# Altium integrated library Motorola Microcontroller 8-Bit.IntLib: 909 symbols (part 9 of 31)
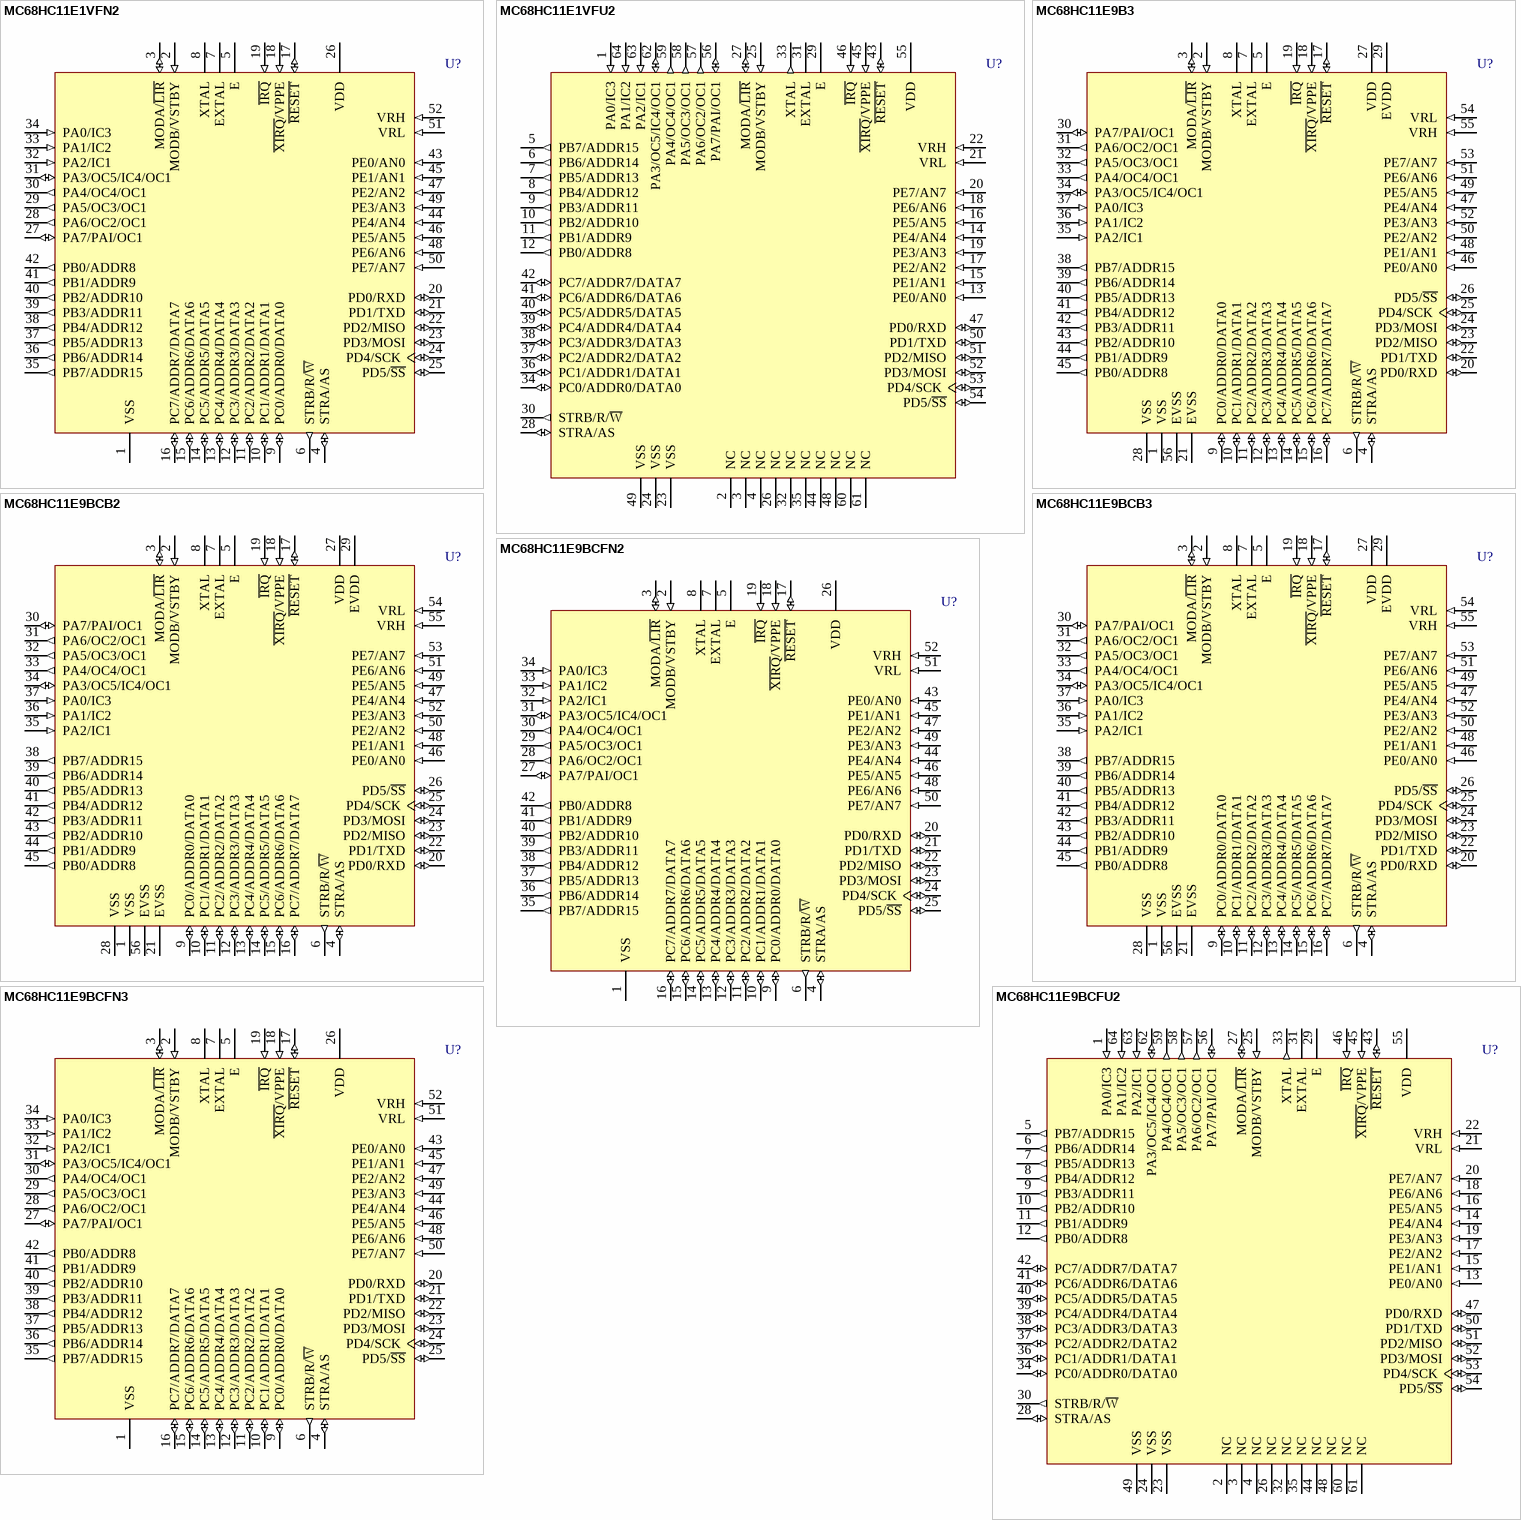
[diagram p121: symbols MC68HC11E1VFN2 to MC68HC11E9BCFU2]

## MC68HC11E1VFN2
designator U?
8-Bit Microcontroller; Published: 17-Jan-2003; LatestRevisionDate: 13-Apr-2006; LatestRevisionNote: IPC-7351 Footprint Added.; DatasheetVersion: 25-Jul-2002; PackageVersion: rev3, 1997; PackageReference: 778-02; Publisher: Altium Limited; PackageDescription: 52-Pin Plastic Leaded Chip Carrier 1.27 mm Pitch; ComponentLink1Description: Manufacturer Link; ComponentLink1URL: http://www.freescale.com/; ComponentLink2Description: Datasheet; ComponentLink2URL: http://www.freescale.com/files/microcontrollers/doc/data_sheet/M68HC11E.pdf
footprint 778-02_N (Leaded Chip Carrier, 52-Leads, Body 19x19mm, Pitch 1.27mm, IPC Medium Density)
footprint 778-02_L (Leaded Chip Carrier, 52-Leads, Body 19x19mm, Pitch 1.27mm, IPC High Density)
footprint 778-02_M (Leaded Chip Carrier, 52-Leads, Body 19x19mm, Pitch 1.27mm, IPC Low Density)
3D model MC68HC11-778-02 (52-Pin Plastic Leaded Chip Carrier 1.27 mm Pitch)
pins: 1 VSS (power), 2 MODB/VSTBY (in), 3 MODA/~{LIR} (io), 4 STRA/AS (io), 5 E, 6 STRB/R/~{W} (out), 7 EXTAL, 8 XTAL, 9 PC0/ADDR0/DATA0 (io), 10 PC1/ADDR1/DATA1 (io), 11 PC2/ADDR2/DATA2 (io), 12 PC3/ADDR3/DATA3 (io), 13 PC4/ADDR4/DATA4 (io), 14 PC5/ADDR5/DATA5 (io), 15 PC6/ADDR6/DATA6 (io), 16 PC7/ADDR7/DATA7 (io), 17 ~{RESET} (io), 18 ~{XIRQ}/VPPE (in), 19 ~{IRQ} (in), 20 PD0/RXD (io), 21 PD1/TXD (io), 22 PD2/MISO (io), 23 PD3/MOSI (io), 24 PD4/SCK (io), 25 PD5/~{SS} (io), 26 VDD (power), 27 PA7/PAI/OC1 (io), 28 PA6/OC2/OC1 (out), 29 PA5/OC3/OC1 (out), 30 PA4/OC4/OC1 (out), 31 PA3/OC5/IC4/OC1 (io), 32 PA2/IC1 (in), 33 PA1/IC2 (in), 34 PA0/IC3 (in), 35 PB7/ADDR15 (out), 36 PB6/ADDR14 (out), 37 PB5/ADDR13 (out), 38 PB4/ADDR12 (out), 39 PB3/ADDR11 (out), 40 PB2/ADDR10 (out), 41 PB1/ADDR9 (out), 42 PB0/ADDR8 (out), 43 PE0/AN0 (in), 44 PE4/AN4 (in), 45 PE1/AN1 (in), 46 PE5/AN5 (in), 47 PE2/AN2 (in), 48 PE6/AN6 (in), 49 PE3/AN3 (in), 50 PE7/AN7 (in), 51 VRL (in), 52 VRH (in)

## MC68HC11E1VFU2
designator U?
8-Bit Microcontroller; Published: 17-Jan-2003; LatestRevisionDate: 13-Apr-2006; LatestRevisionNote: IPC-7351 Footprint Added.; DatasheetVersion: 25-Jul-2002; PackageVersion: rev4, Jul-2002; PackageReference: 840C; Publisher: Altium Limited; PackageDescription: 64-Pin Quad Flat Pack 0.8 mm Pitch; ComponentLink1Description: Manufacturer Link; ComponentLink1URL: http://www.freescale.com/; ComponentLink2Description: Datasheet; ComponentLink2URL: http://www.freescale.com/files/microcontrollers/doc/data_sheet/M68HC11E.pdf
footprint 840C_N (QFP, 64-Leads, Body 14x14mm, Pitch 0.8mm, IPC Medium Density)
footprint 840C_L (QFP, 64-Leads, Body 14x14mm, Pitch 0.8mm, IPC High Density)
footprint 840C_M (QFP, 64-Leads, Body 14x14mm, Pitch 0.8mm, IPC Low Density)
3D model MC68HC11-840C (64-Pin Quad Flat Pack 0.8 mm Pitch)
pins: 1 PA0/IC3 (in), 2 NC, 3 NC, 4 NC, 5 PB7/ADDR15 (out), 6 PB6/ADDR14 (out), 7 PB5/ADDR13 (out), 8 PB4/ADDR12 (out), 9 PB3/ADDR11 (out), 10 PB2/ADDR10 (out), 11 PB1/ADDR9 (out), 12 PB0/ADDR8 (out), 13 PE0/AN0 (in), 14 PE4/AN4 (in), 15 PE1/AN1 (in), 16 PE5/AN5 (in), 17 PE2/AN2 (in), 18 PE6/AN6 (in), 19 PE3/AN3 (in), 20 PE7/AN7 (in), 21 VRL (in), 22 VRH (in), 23 VSS (power), 24 VSS (power), 25 MODB/VSTBY (in), 26 NC, 27 MODA/~{LIR} (io), 28 STRA/AS (io), 29 E, 30 STRB/R/~{W} (out), 31 EXTAL, 32 NC, 33 XTAL (out), 34 PC0/ADDR0/DATA0 (io), 35 NC, 36 PC1/ADDR1/DATA1 (io), 37 PC2/ADDR2/DATA2 (io), 38 PC3/ADDR3/DATA3 (io), 39 PC4/ADDR4/DATA4 (io), 40 PC5/ADDR5/DATA5 (io), 41 PC6/ADDR6/DATA6 (io), 42 PC7/ADDR7/DATA7 (io), 43 ~{RESET} (io), 44 NC, 45 ~{XIRQ}/VPPE (in), 46 ~{IRQ} (in), 47 PD0/RXD (io), 48 NC, 49 VSS (power), 50 PD1/TXD (io), 51 PD2/MISO (io), 52 PD3/MOSI (io), 53 PD4/SCK (io), 54 PD5/~{SS} (io), 55 VDD (power), 56 PA7/PAI/OC1 (io), 57 PA6/OC2/OC1 (out), 58 PA5/OC3/OC1 (out), 59 PA4/OC4/OC1 (out), 60 NC, 61 NC, 62 PA3/OC5/IC4/OC1 (io), 63 PA2/IC1 (in), 64 PA1/IC2 (in)

## MC68HC11E9B3
designator U?
8-Bit Microcontroller; Published: 17-Jan-2003; LatestRevisionDate: 06-Jun-2005; LatestRevisionNote: Stylized 3D Model Added.; DatasheetVersion: 25-Jul-2002; PackageVersion: rev4, Jul-2002; PackageReference: 859; Publisher: Altium Limited; PackageDescription: DIP; 56 Leads; Row Spacing 15.24 mm; Pitch 1.778 mm; ComponentLink1Description: Manufacturer Link; ComponentLink1URL: http://www.freescale.com/; ComponentLink2Description: Datasheet; ComponentLink2URL: http://www.freescale.com/files/microcontrollers/doc/data_sheet/M68HC11E.pdf
footprint 859 (DIP; 56 Leads; Row Spacing 15.24 mm; Pitch 1.778 mm)
3D model 859-01 (DIP; 56 Leads; Row Spacing 15.24 mm; Pitch 1.778 mm)
pins: 1 VSS (power), 2 MODB/VSTBY (in), 3 MODA/~{LIR} (io), 4 STRA/AS (io), 5 E, 6 STRB/R/~{W} (out), 7 EXTAL, 8 XTAL, 9 PC0/ADDR0/DATA0 (io), 10 PC1/ADDR1/DATA1 (io), 11 PC2/ADDR2/DATA2 (io), 12 PC3/ADDR3/DATA3 (io), 13 PC4/ADDR4/DATA4 (io), 14 PC5/ADDR5/DATA5 (io), 15 PC6/ADDR6/DATA6 (io), 16 PC7/ADDR7/DATA7 (io), 17 ~{RESET} (io), 18 ~{XIRQ}/VPPE (in), 19 ~{IRQ} (in), 20 PD0/RXD (io), 21 EVSS (power), 22 PD1/TXD (io), 23 PD2/MISO (io), 24 PD3/MOSI (io), 25 PD4/SCK (io), 26 PD5/~{SS} (io), 27 VDD (power), 28 VSS (power), 29 EVDD (power), 30 PA7/PAI/OC1 (io), 31 PA6/OC2/OC1 (out), 32 PA5/OC3/OC1 (out), 33 PA4/OC4/OC1 (out), 34 PA3/OC5/IC4/OC1 (io), 35 PA2/IC1 (in), 36 PA1/IC2 (in), 37 PA0/IC3 (in), 38 PB7/ADDR15 (out), 39 PB6/ADDR14 (out), 40 PB5/ADDR13 (out), 41 PB4/ADDR12 (out), 42 PB3/ADDR11 (out), 43 PB2/ADDR10 (out), 44 PB1/ADDR9 (out), 45 PB0/ADDR8 (out), 46 PE0/AN0 (in), 47 PE4/AN4 (in), 48 PE1/AN1 (in), 49 PE5/AN5 (in), 50 PE2/AN2 (in), 51 PE6/AN6 (in), 52 PE3/AN3 (in), 53 PE7/AN7 (in), 54 VRL (in), 55 VRH (in), 56 EVSS (power)

## MC68HC11E9BCB2
designator U?
8-Bit Microcontroller; Published: 17-Jan-2003; LatestRevisionDate: 06-Jun-2005; LatestRevisionNote: Stylized 3D Model Added.; DatasheetVersion: 25-Jul-2002; PackageVersion: rev4, Jul-2002; PackageReference: 859; Publisher: Altium Limited; PackageDescription: DIP; 56 Leads; Row Spacing 15.24 mm; Pitch 1.778 mm; ComponentLink1Description: Manufacturer Link; ComponentLink1URL: http://www.freescale.com/; ComponentLink2Description: Datasheet; ComponentLink2URL: http://www.freescale.com/files/microcontrollers/doc/data_sheet/M68HC11E.pdf
footprint 859 (DIP; 56 Leads; Row Spacing 15.24 mm; Pitch 1.778 mm)
3D model 859-01 (DIP; 56 Leads; Row Spacing 15.24 mm; Pitch 1.778 mm)
pins: 1 VSS (power), 2 MODB/VSTBY (in), 3 MODA/~{LIR} (io), 4 STRA/AS (io), 5 E, 6 STRB/R/~{W} (out), 7 EXTAL, 8 XTAL, 9 PC0/ADDR0/DATA0 (io), 10 PC1/ADDR1/DATA1 (io), 11 PC2/ADDR2/DATA2 (io), 12 PC3/ADDR3/DATA3 (io), 13 PC4/ADDR4/DATA4 (io), 14 PC5/ADDR5/DATA5 (io), 15 PC6/ADDR6/DATA6 (io), 16 PC7/ADDR7/DATA7 (io), 17 ~{RESET} (io), 18 ~{XIRQ}/VPPE (in), 19 ~{IRQ} (in), 20 PD0/RXD (io), 21 EVSS (power), 22 PD1/TXD (io), 23 PD2/MISO (io), 24 PD3/MOSI (io), 25 PD4/SCK (io), 26 PD5/~{SS} (io), 27 VDD (power), 28 VSS (power), 29 EVDD (power), 30 PA7/PAI/OC1 (io), 31 PA6/OC2/OC1 (out), 32 PA5/OC3/OC1 (out), 33 PA4/OC4/OC1 (out), 34 PA3/OC5/IC4/OC1 (io), 35 PA2/IC1 (in), 36 PA1/IC2 (in), 37 PA0/IC3 (in), 38 PB7/ADDR15 (out), 39 PB6/ADDR14 (out), 40 PB5/ADDR13 (out), 41 PB4/ADDR12 (out), 42 PB3/ADDR11 (out), 43 PB2/ADDR10 (out), 44 PB1/ADDR9 (out), 45 PB0/ADDR8 (out), 46 PE0/AN0 (in), 47 PE4/AN4 (in), 48 PE1/AN1 (in), 49 PE5/AN5 (in), 50 PE2/AN2 (in), 51 PE6/AN6 (in), 52 PE3/AN3 (in), 53 PE7/AN7 (in), 54 VRL (in), 55 VRH (in), 56 EVSS (power)

## MC68HC11E9BCB3
designator U?
8-Bit Microcontroller; Published: 17-Jan-2003; LatestRevisionDate: 06-Jun-2005; LatestRevisionNote: Stylized 3D Model Added.; DatasheetVersion: 25-Jul-2002; PackageVersion: rev4, Jul-2002; PackageReference: 859; Publisher: Altium Limited; PackageDescription: DIP; 56 Leads; Row Spacing 15.24 mm; Pitch 1.778 mm; ComponentLink1Description: Manufacturer Link; ComponentLink1URL: http://www.freescale.com/; ComponentLink2Description: Datasheet; ComponentLink2URL: http://www.freescale.com/files/microcontrollers/doc/data_sheet/M68HC11E.pdf
footprint 859 (DIP; 56 Leads; Row Spacing 15.24 mm; Pitch 1.778 mm)
3D model 859-01 (DIP; 56 Leads; Row Spacing 15.24 mm; Pitch 1.778 mm)
pins: 1 VSS (power), 2 MODB/VSTBY (in), 3 MODA/~{LIR} (io), 4 STRA/AS (io), 5 E, 6 STRB/R/~{W} (out), 7 EXTAL, 8 XTAL, 9 PC0/ADDR0/DATA0 (io), 10 PC1/ADDR1/DATA1 (io), 11 PC2/ADDR2/DATA2 (io), 12 PC3/ADDR3/DATA3 (io), 13 PC4/ADDR4/DATA4 (io), 14 PC5/ADDR5/DATA5 (io), 15 PC6/ADDR6/DATA6 (io), 16 PC7/ADDR7/DATA7 (io), 17 ~{RESET} (io), 18 ~{XIRQ}/VPPE (in), 19 ~{IRQ} (in), 20 PD0/RXD (io), 21 EVSS (power), 22 PD1/TXD (io), 23 PD2/MISO (io), 24 PD3/MOSI (io), 25 PD4/SCK (io), 26 PD5/~{SS} (io), 27 VDD (power), 28 VSS (power), 29 EVDD (power), 30 PA7/PAI/OC1 (io), 31 PA6/OC2/OC1 (out), 32 PA5/OC3/OC1 (out), 33 PA4/OC4/OC1 (out), 34 PA3/OC5/IC4/OC1 (io), 35 PA2/IC1 (in), 36 PA1/IC2 (in), 37 PA0/IC3 (in), 38 PB7/ADDR15 (out), 39 PB6/ADDR14 (out), 40 PB5/ADDR13 (out), 41 PB4/ADDR12 (out), 42 PB3/ADDR11 (out), 43 PB2/ADDR10 (out), 44 PB1/ADDR9 (out), 45 PB0/ADDR8 (out), 46 PE0/AN0 (in), 47 PE4/AN4 (in), 48 PE1/AN1 (in), 49 PE5/AN5 (in), 50 PE2/AN2 (in), 51 PE6/AN6 (in), 52 PE3/AN3 (in), 53 PE7/AN7 (in), 54 VRL (in), 55 VRH (in), 56 EVSS (power)

## MC68HC11E9BCFN2
designator U?
8-Bit Microcontroller; Published: 17-Jan-2003; LatestRevisionDate: 13-Apr-2006; LatestRevisionNote: IPC-7351 Footprint Added.; DatasheetVersion: 25-Jul-2002; PackageVersion: rev3, 1997; PackageReference: 778-02; Publisher: Altium Limited; PackageDescription: 52-Pin Plastic Leaded Chip Carrier 1.27 mm Pitch; ComponentLink1Description: Manufacturer Link; ComponentLink1URL: http://www.freescale.com/; ComponentLink2Description: Datasheet; ComponentLink2URL: http://www.freescale.com/files/microcontrollers/doc/data_sheet/M68HC11E.pdf
footprint 778-02_N (Leaded Chip Carrier, 52-Leads, Body 19x19mm, Pitch 1.27mm, IPC Medium Density)
footprint 778-02_L (Leaded Chip Carrier, 52-Leads, Body 19x19mm, Pitch 1.27mm, IPC High Density)
footprint 778-02_M (Leaded Chip Carrier, 52-Leads, Body 19x19mm, Pitch 1.27mm, IPC Low Density)
3D model MC68HC11-778-02 (52-Pin Plastic Leaded Chip Carrier 1.27 mm Pitch)
pins: 1 VSS (power), 2 MODB/VSTBY (in), 3 MODA/~{LIR} (io), 4 STRA/AS (io), 5 E, 6 STRB/R/~{W} (out), 7 EXTAL, 8 XTAL, 9 PC0/ADDR0/DATA0 (io), 10 PC1/ADDR1/DATA1 (io), 11 PC2/ADDR2/DATA2 (io), 12 PC3/ADDR3/DATA3 (io), 13 PC4/ADDR4/DATA4 (io), 14 PC5/ADDR5/DATA5 (io), 15 PC6/ADDR6/DATA6 (io), 16 PC7/ADDR7/DATA7 (io), 17 ~{RESET} (io), 18 ~{XIRQ}/VPPE (in), 19 ~{IRQ} (in), 20 PD0/RXD (io), 21 PD1/TXD (io), 22 PD2/MISO (io), 23 PD3/MOSI (io), 24 PD4/SCK (io), 25 PD5/~{SS} (io), 26 VDD (power), 27 PA7/PAI/OC1 (io), 28 PA6/OC2/OC1 (out), 29 PA5/OC3/OC1 (out), 30 PA4/OC4/OC1 (out), 31 PA3/OC5/IC4/OC1 (io), 32 PA2/IC1 (in), 33 PA1/IC2 (in), 34 PA0/IC3 (in), 35 PB7/ADDR15 (out), 36 PB6/ADDR14 (out), 37 PB5/ADDR13 (out), 38 PB4/ADDR12 (out), 39 PB3/ADDR11 (out), 40 PB2/ADDR10 (out), 41 PB1/ADDR9 (out), 42 PB0/ADDR8 (out), 43 PE0/AN0 (in), 44 PE4/AN4 (in), 45 PE1/AN1 (in), 46 PE5/AN5 (in), 47 PE2/AN2 (in), 48 PE6/AN6 (in), 49 PE3/AN3 (in), 50 PE7/AN7 (in), 51 VRL (in), 52 VRH (in)

## MC68HC11E9BCFN3
designator U?
8-Bit Microcontroller; Published: 17-Jan-2003; LatestRevisionDate: 13-Apr-2006; LatestRevisionNote: IPC-7351 Footprint Added.; DatasheetVersion: 25-Jul-2002; PackageVersion: rev3, 1997; PackageReference: 778-02; Publisher: Altium Limited; PackageDescription: 52-Pin Plastic Leaded Chip Carrier 1.27 mm Pitch; ComponentLink1Description: Manufacturer Link; ComponentLink1URL: http://www.freescale.com/; ComponentLink2Description: Datasheet; ComponentLink2URL: http://www.freescale.com/files/microcontrollers/doc/data_sheet/M68HC11E.pdf
footprint 778-02_N (Leaded Chip Carrier, 52-Leads, Body 19x19mm, Pitch 1.27mm, IPC Medium Density)
footprint 778-02_L (Leaded Chip Carrier, 52-Leads, Body 19x19mm, Pitch 1.27mm, IPC High Density)
footprint 778-02_M (Leaded Chip Carrier, 52-Leads, Body 19x19mm, Pitch 1.27mm, IPC Low Density)
3D model MC68HC11-778-02 (52-Pin Plastic Leaded Chip Carrier 1.27 mm Pitch)
pins: 1 VSS (power), 2 MODB/VSTBY (in), 3 MODA/~{LIR} (io), 4 STRA/AS (io), 5 E, 6 STRB/R/~{W} (out), 7 EXTAL, 8 XTAL, 9 PC0/ADDR0/DATA0 (io), 10 PC1/ADDR1/DATA1 (io), 11 PC2/ADDR2/DATA2 (io), 12 PC3/ADDR3/DATA3 (io), 13 PC4/ADDR4/DATA4 (io), 14 PC5/ADDR5/DATA5 (io), 15 PC6/ADDR6/DATA6 (io), 16 PC7/ADDR7/DATA7 (io), 17 ~{RESET} (io), 18 ~{XIRQ}/VPPE (in), 19 ~{IRQ} (in), 20 PD0/RXD (io), 21 PD1/TXD (io), 22 PD2/MISO (io), 23 PD3/MOSI (io), 24 PD4/SCK (io), 25 PD5/~{SS} (io), 26 VDD (power), 27 PA7/PAI/OC1 (io), 28 PA6/OC2/OC1 (out), 29 PA5/OC3/OC1 (out), 30 PA4/OC4/OC1 (out), 31 PA3/OC5/IC4/OC1 (io), 32 PA2/IC1 (in), 33 PA1/IC2 (in), 34 PA0/IC3 (in), 35 PB7/ADDR15 (out), 36 PB6/ADDR14 (out), 37 PB5/ADDR13 (out), 38 PB4/ADDR12 (out), 39 PB3/ADDR11 (out), 40 PB2/ADDR10 (out), 41 PB1/ADDR9 (out), 42 PB0/ADDR8 (out), 43 PE0/AN0 (in), 44 PE4/AN4 (in), 45 PE1/AN1 (in), 46 PE5/AN5 (in), 47 PE2/AN2 (in), 48 PE6/AN6 (in), 49 PE3/AN3 (in), 50 PE7/AN7 (in), 51 VRL (in), 52 VRH (in)

## MC68HC11E9BCFU2
designator U?
8-Bit Microcontroller; Published: 17-Jan-2003; LatestRevisionDate: 13-Apr-2006; LatestRevisionNote: IPC-7351 Footprint Added.; DatasheetVersion: 25-Jul-2002; PackageVersion: rev4, Jul-2002; PackageReference: 840C; Publisher: Altium Limited; PackageDescription: 64-Pin Quad Flat Pack 0.8 mm Pitch; ComponentLink1Description: Manufacturer Link; ComponentLink1URL: http://www.freescale.com/; ComponentLink2Description: Datasheet; ComponentLink2URL: http://www.freescale.com/files/microcontrollers/doc/data_sheet/M68HC11E.pdf
footprint 840C_N (QFP, 64-Leads, Body 14x14mm, Pitch 0.8mm, IPC Medium Density)
footprint 840C_L (QFP, 64-Leads, Body 14x14mm, Pitch 0.8mm, IPC High Density)
footprint 840C_M (QFP, 64-Leads, Body 14x14mm, Pitch 0.8mm, IPC Low Density)
3D model MC68HC11-840C (64-Pin Quad Flat Pack 0.8 mm Pitch)
pins: 1 PA0/IC3 (in), 2 NC, 3 NC, 4 NC, 5 PB7/ADDR15 (out), 6 PB6/ADDR14 (out), 7 PB5/ADDR13 (out), 8 PB4/ADDR12 (out), 9 PB3/ADDR11 (out), 10 PB2/ADDR10 (out), 11 PB1/ADDR9 (out), 12 PB0/ADDR8 (out), 13 PE0/AN0 (in), 14 PE4/AN4 (in), 15 PE1/AN1 (in), 16 PE5/AN5 (in), 17 PE2/AN2 (in), 18 PE6/AN6 (in), 19 PE3/AN3 (in), 20 PE7/AN7 (in), 21 VRL (in), 22 VRH (in), 23 VSS (power), 24 VSS (power), 25 MODB/VSTBY (in), 26 NC, 27 MODA/~{LIR} (io), 28 STRA/AS (io), 29 E, 30 STRB/R/~{W} (out), 31 EXTAL, 32 NC, 33 XTAL (out), 34 PC0/ADDR0/DATA0 (io), 35 NC, 36 PC1/ADDR1/DATA1 (io), 37 PC2/ADDR2/DATA2 (io), 38 PC3/ADDR3/DATA3 (io), 39 PC4/ADDR4/DATA4 (io), 40 PC5/ADDR5/DATA5 (io), 41 PC6/ADDR6/DATA6 (io), 42 PC7/ADDR7/DATA7 (io), 43 ~{RESET} (io), 44 NC, 45 ~{XIRQ}/VPPE (in), 46 ~{IRQ} (in), 47 PD0/RXD (io), 48 NC, 49 VSS (power), 50 PD1/TXD (io), 51 PD2/MISO (io), 52 PD3/MOSI (io), 53 PD4/SCK (io), 54 PD5/~{SS} (io), 55 VDD (power), 56 PA7/PAI/OC1 (io), 57 PA6/OC2/OC1 (out), 58 PA5/OC3/OC1 (out), 59 PA4/OC4/OC1 (out), 60 NC, 61 NC, 62 PA3/OC5/IC4/OC1 (io), 63 PA2/IC1 (in), 64 PA1/IC2 (in)

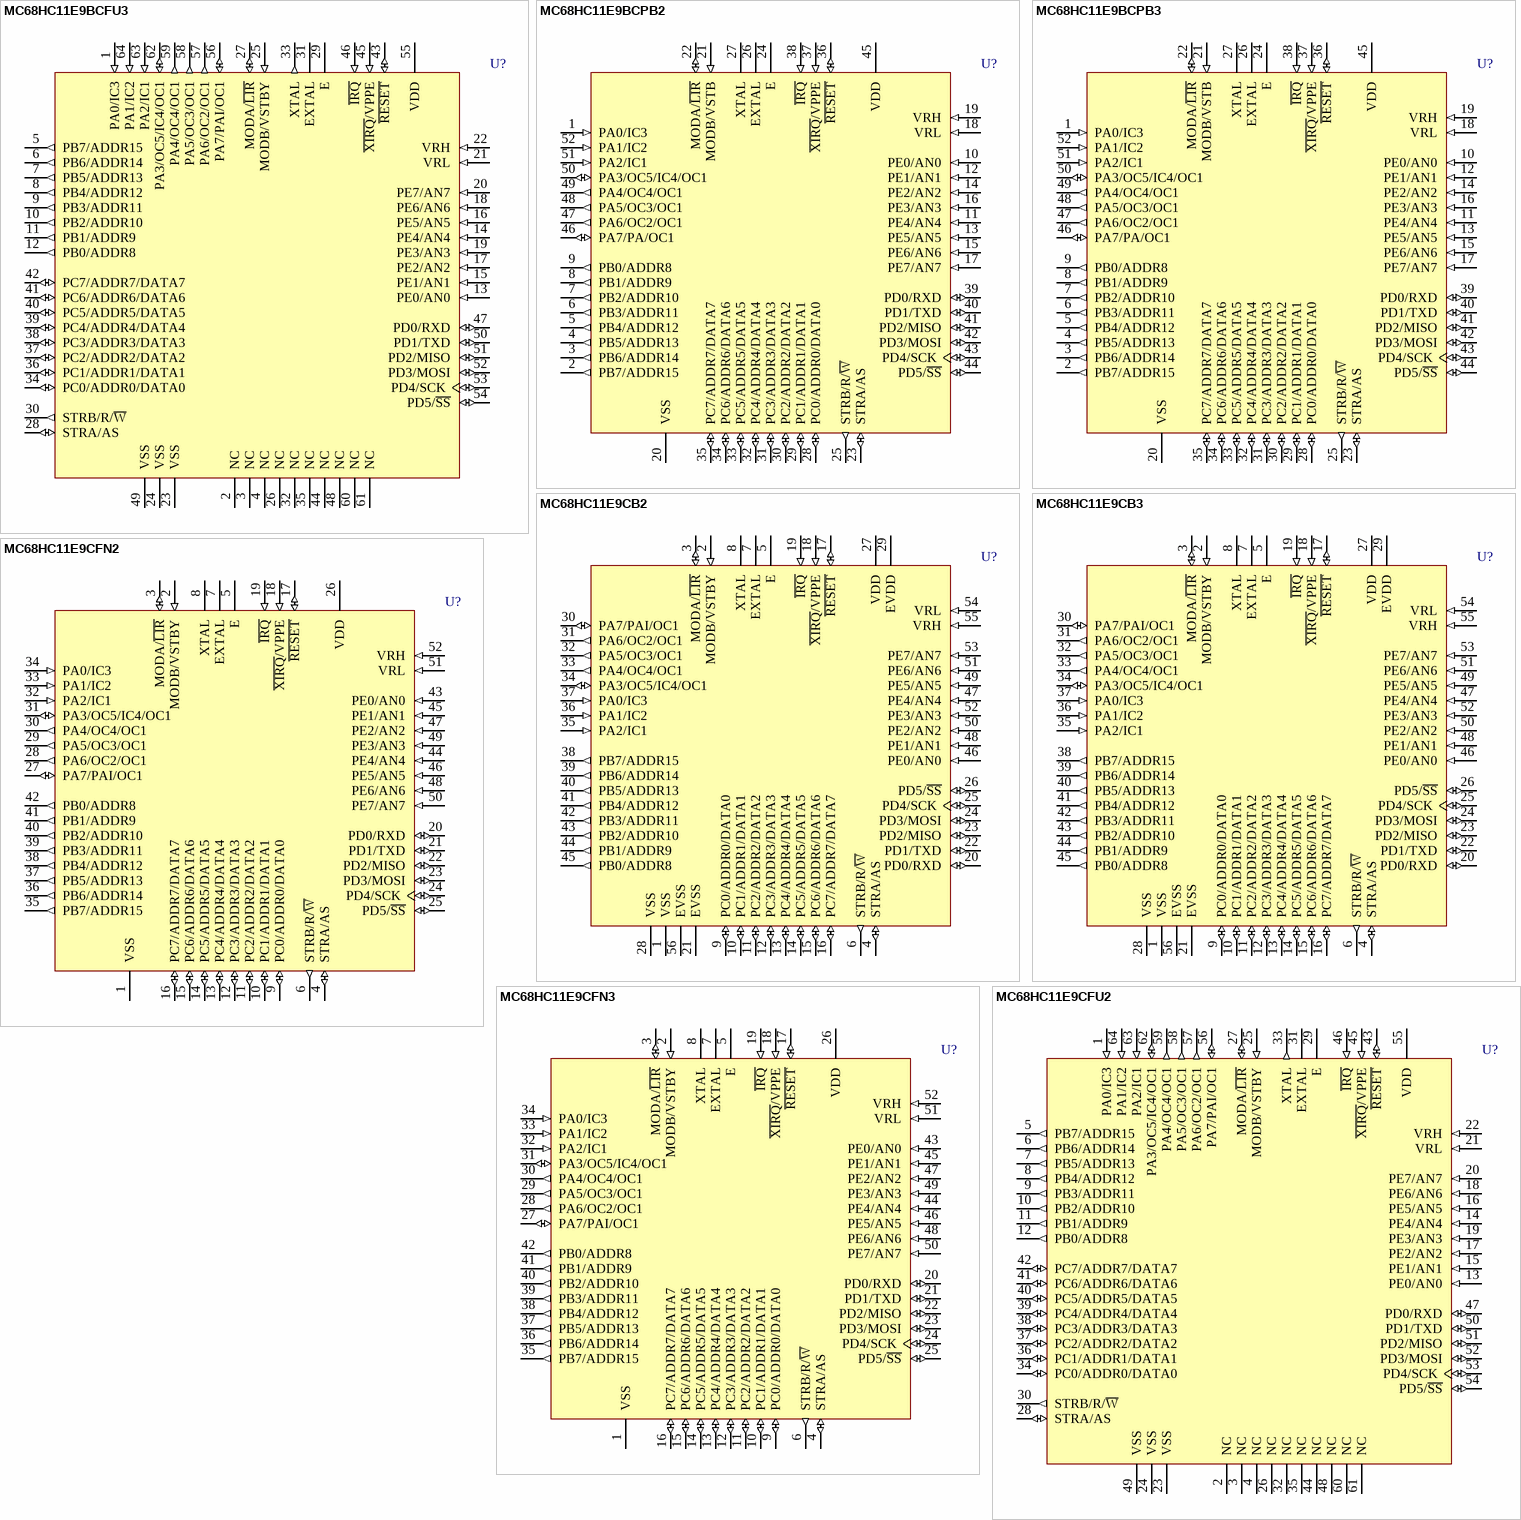
[diagram p24: symbols MC68HC11E9BCFU3 to MC68HC11E9CFU2]

## MC68HC11E9BCFU3
designator U?
8-Bit Microcontroller; Published: 17-Jan-2003; LatestRevisionDate: 13-Apr-2006; LatestRevisionNote: IPC-7351 Footprint Added.; DatasheetVersion: 25-Jul-2002; PackageVersion: rev4, Jul-2002; PackageReference: 840C; Publisher: Altium Limited; PackageDescription: 64-Pin Quad Flat Pack 0.8 mm Pitch; ComponentLink1Description: Manufacturer Link; ComponentLink1URL: http://www.freescale.com/; ComponentLink2Description: Datasheet; ComponentLink2URL: http://www.freescale.com/files/microcontrollers/doc/data_sheet/M68HC11E.pdf
footprint 840C_N (QFP, 64-Leads, Body 14x14mm, Pitch 0.8mm, IPC Medium Density)
footprint 840C_L (QFP, 64-Leads, Body 14x14mm, Pitch 0.8mm, IPC High Density)
footprint 840C_M (QFP, 64-Leads, Body 14x14mm, Pitch 0.8mm, IPC Low Density)
3D model MC68HC11-840C (64-Pin Quad Flat Pack 0.8 mm Pitch)
pins: 1 PA0/IC3 (in), 2 NC, 3 NC, 4 NC, 5 PB7/ADDR15 (out), 6 PB6/ADDR14 (out), 7 PB5/ADDR13 (out), 8 PB4/ADDR12 (out), 9 PB3/ADDR11 (out), 10 PB2/ADDR10 (out), 11 PB1/ADDR9 (out), 12 PB0/ADDR8 (out), 13 PE0/AN0 (in), 14 PE4/AN4 (in), 15 PE1/AN1 (in), 16 PE5/AN5 (in), 17 PE2/AN2 (in), 18 PE6/AN6 (in), 19 PE3/AN3 (in), 20 PE7/AN7 (in), 21 VRL (in), 22 VRH (in), 23 VSS (power), 24 VSS (power), 25 MODB/VSTBY (in), 26 NC, 27 MODA/~{LIR} (io), 28 STRA/AS (io), 29 E, 30 STRB/R/~{W} (out), 31 EXTAL, 32 NC, 33 XTAL (out), 34 PC0/ADDR0/DATA0 (io), 35 NC, 36 PC1/ADDR1/DATA1 (io), 37 PC2/ADDR2/DATA2 (io), 38 PC3/ADDR3/DATA3 (io), 39 PC4/ADDR4/DATA4 (io), 40 PC5/ADDR5/DATA5 (io), 41 PC6/ADDR6/DATA6 (io), 42 PC7/ADDR7/DATA7 (io), 43 ~{RESET} (io), 44 NC, 45 ~{XIRQ}/VPPE (in), 46 ~{IRQ} (in), 47 PD0/RXD (io), 48 NC, 49 VSS (power), 50 PD1/TXD (io), 51 PD2/MISO (io), 52 PD3/MOSI (io), 53 PD4/SCK (io), 54 PD5/~{SS} (io), 55 VDD (power), 56 PA7/PAI/OC1 (io), 57 PA6/OC2/OC1 (out), 58 PA5/OC3/OC1 (out), 59 PA4/OC4/OC1 (out), 60 NC, 61 NC, 62 PA3/OC5/IC4/OC1 (io), 63 PA2/IC1 (in), 64 PA1/IC2 (in)

## MC68HC11E9BCPB2
designator U?
8-Bit Microcontroller; Published: 17-Jan-2003; LatestRevisionDate: 13-Apr-2006; LatestRevisionNote: IPC-7351 Footprint Added.; DatasheetVersion: 25-Jul-2002; PackageVersion: rev4, Jul-2002; PackageReference: 848D; Publisher: Altium Limited; PackageDescription: 52-Pin Quad Flat Pack 0.65 mm Pitch; ComponentLink1Description: Manufacturer Link; ComponentLink1URL: http://www.freescale.com/; ComponentLink2Description: Datasheet; ComponentLink2URL: http://www.freescale.com/files/microcontrollers/doc/data_sheet/M68HC11E.pdf
footprint 848D_N (QFP, 52-Leads, Body 10 x 10mm, Pitch 0.65mm, IPC Medium Density)
footprint 848D_L (QFP, 52-Leads, Body 10 x 10mm, Pitch 0.65mm, IPC High Density)
footprint 848D_M (QFP, 52-Leads, Body 10 x 10mm, Pitch 0.65mm, IPC Low Density)
3D model MC68HC11-848D (52-Pin Quad Flat Pack 0.65 mm Pitch)
pins: 1 PA0/IC3 (in), 2 PB7/ADDR15 (out), 3 PB6/ADDR14 (out), 4 PB5/ADDR13 (out), 5 PB4/ADDR12 (out), 6 PB3/ADDR11 (out), 7 PB2/ADDR10 (out), 8 PB1/ADDR9 (out), 9 PB0/ADDR8 (out), 10 PE0/AN0 (in), 11 PE4/AN4 (in), 12 PE1/AN1 (in), 13 PE5/AN5 (in), 14 PE2/AN2 (in), 15 PE6/AN6 (in), 16 PE3/AN3 (in), 17 PE7/AN7 (in), 18 VRL (in), 19 VRH (in), 20 VSS (power), 21 MODB/VSTB (in), 22 MODA/~{LIR} (io), 23 STRA/AS (io), 24 E, 25 STRB/R/~{W} (out), 26 EXTAL, 27 XTAL, 28 PC0/ADDR0/DATA0 (io), 29 PC1/ADDR1/DATA1 (io), 30 PC2/ADDR2/DATA2 (io), 31 PC3/ADDR3/DATA3 (io), 32 PC4/ADDR4/DATA4 (io), 33 PC5/ADDR5/DATA5 (io), 34 PC6/ADDR6/DATA6 (io), 35 PC7/ADDR7/DATA7 (io), 36 ~{RESET} (io), 37 ~{XIRQ}/VPPE (in), 38 ~{IRQ} (in), 39 PD0/RXD (io), 40 PD1/TXD (io), 41 PD2/MISO (io), 42 PD3/MOSI (io), 43 PD4/SCK (io), 44 PD5/~{SS} (io), 45 VDD (power), 46 PA7/PA/OC1 (io), 47 PA6/OC2/OC1 (out), 48 PA5/OC3/OC1 (out), 49 PA4/OC4/OC1 (out), 50 PA3/OC5/IC4/OC1 (io), 51 PA2/IC1 (in), 52 PA1/IC2 (in)

## MC68HC11E9BCPB3
designator U?
8-Bit Microcontroller; Published: 17-Jan-2003; LatestRevisionDate: 13-Apr-2006; LatestRevisionNote: IPC-7351 Footprint Added.; DatasheetVersion: 25-Jul-2002; PackageVersion: rev4, Jul-2002; PackageReference: 848D; Publisher: Altium Limited; PackageDescription: 52-Pin Quad Flat Pack 0.65 mm Pitch; ComponentLink1Description: Manufacturer Link; ComponentLink1URL: http://www.freescale.com/; ComponentLink2Description: Datasheet; ComponentLink2URL: http://www.freescale.com/files/microcontrollers/doc/data_sheet/M68HC11E.pdf
footprint 848D_N (QFP, 52-Leads, Body 10 x 10mm, Pitch 0.65mm, IPC Medium Density)
footprint 848D_L (QFP, 52-Leads, Body 10 x 10mm, Pitch 0.65mm, IPC High Density)
footprint 848D_M (QFP, 52-Leads, Body 10 x 10mm, Pitch 0.65mm, IPC Low Density)
3D model MC68HC11-848D (52-Pin Quad Flat Pack 0.65 mm Pitch)
pins: 1 PA0/IC3 (in), 2 PB7/ADDR15 (out), 3 PB6/ADDR14 (out), 4 PB5/ADDR13 (out), 5 PB4/ADDR12 (out), 6 PB3/ADDR11 (out), 7 PB2/ADDR10 (out), 8 PB1/ADDR9 (out), 9 PB0/ADDR8 (out), 10 PE0/AN0 (in), 11 PE4/AN4 (in), 12 PE1/AN1 (in), 13 PE5/AN5 (in), 14 PE2/AN2 (in), 15 PE6/AN6 (in), 16 PE3/AN3 (in), 17 PE7/AN7 (in), 18 VRL (in), 19 VRH (in), 20 VSS (power), 21 MODB/VSTB (in), 22 MODA/~{LIR} (io), 23 STRA/AS (io), 24 E, 25 STRB/R/~{W} (out), 26 EXTAL, 27 XTAL, 28 PC0/ADDR0/DATA0 (io), 29 PC1/ADDR1/DATA1 (io), 30 PC2/ADDR2/DATA2 (io), 31 PC3/ADDR3/DATA3 (io), 32 PC4/ADDR4/DATA4 (io), 33 PC5/ADDR5/DATA5 (io), 34 PC6/ADDR6/DATA6 (io), 35 PC7/ADDR7/DATA7 (io), 36 ~{RESET} (io), 37 ~{XIRQ}/VPPE (in), 38 ~{IRQ} (in), 39 PD0/RXD (io), 40 PD1/TXD (io), 41 PD2/MISO (io), 42 PD3/MOSI (io), 43 PD4/SCK (io), 44 PD5/~{SS} (io), 45 VDD (power), 46 PA7/PA/OC1 (io), 47 PA6/OC2/OC1 (out), 48 PA5/OC3/OC1 (out), 49 PA4/OC4/OC1 (out), 50 PA3/OC5/IC4/OC1 (io), 51 PA2/IC1 (in), 52 PA1/IC2 (in)

## MC68HC11E9CB2
designator U?
8-Bit Microcontroller; Published: 17-Jan-2003; LatestRevisionDate: 06-Jun-2005; LatestRevisionNote: Stylized 3D Model Added.; DatasheetVersion: 25-Jul-2002; PackageVersion: rev4, Jul-2002; PackageReference: 859; Publisher: Altium Limited; PackageDescription: DIP; 56 Leads; Row Spacing 15.24 mm; Pitch 1.778 mm; ComponentLink1Description: Manufacturer Link; ComponentLink1URL: http://www.freescale.com/; ComponentLink2Description: Datasheet; ComponentLink2URL: http://www.freescale.com/files/microcontrollers/doc/data_sheet/M68HC11E.pdf
footprint 859 (DIP; 56 Leads; Row Spacing 15.24 mm; Pitch 1.778 mm)
3D model 859-01 (DIP; 56 Leads; Row Spacing 15.24 mm; Pitch 1.778 mm)
pins: 1 VSS (power), 2 MODB/VSTBY (in), 3 MODA/~{LIR} (io), 4 STRA/AS (io), 5 E, 6 STRB/R/~{W} (out), 7 EXTAL, 8 XTAL, 9 PC0/ADDR0/DATA0 (io), 10 PC1/ADDR1/DATA1 (io), 11 PC2/ADDR2/DATA2 (io), 12 PC3/ADDR3/DATA3 (io), 13 PC4/ADDR4/DATA4 (io), 14 PC5/ADDR5/DATA5 (io), 15 PC6/ADDR6/DATA6 (io), 16 PC7/ADDR7/DATA7 (io), 17 ~{RESET} (io), 18 ~{XIRQ}/VPPE (in), 19 ~{IRQ} (in), 20 PD0/RXD (io), 21 EVSS (power), 22 PD1/TXD (io), 23 PD2/MISO (io), 24 PD3/MOSI (io), 25 PD4/SCK (io), 26 PD5/~{SS} (io), 27 VDD (power), 28 VSS (power), 29 EVDD (power), 30 PA7/PAI/OC1 (io), 31 PA6/OC2/OC1 (out), 32 PA5/OC3/OC1 (out), 33 PA4/OC4/OC1 (out), 34 PA3/OC5/IC4/OC1 (io), 35 PA2/IC1 (in), 36 PA1/IC2 (in), 37 PA0/IC3 (in), 38 PB7/ADDR15 (out), 39 PB6/ADDR14 (out), 40 PB5/ADDR13 (out), 41 PB4/ADDR12 (out), 42 PB3/ADDR11 (out), 43 PB2/ADDR10 (out), 44 PB1/ADDR9 (out), 45 PB0/ADDR8 (out), 46 PE0/AN0 (in), 47 PE4/AN4 (in), 48 PE1/AN1 (in), 49 PE5/AN5 (in), 50 PE2/AN2 (in), 51 PE6/AN6 (in), 52 PE3/AN3 (in), 53 PE7/AN7 (in), 54 VRL (in), 55 VRH (in), 56 EVSS (power)

## MC68HC11E9CB3
designator U?
8-Bit Microcontroller; Published: 17-Jan-2003; LatestRevisionDate: 06-Jun-2005; LatestRevisionNote: Stylized 3D Model Added.; DatasheetVersion: 25-Jul-2002; PackageVersion: rev4, Jul-2002; PackageReference: 859; Publisher: Altium Limited; PackageDescription: DIP; 56 Leads; Row Spacing 15.24 mm; Pitch 1.778 mm; ComponentLink1Description: Manufacturer Link; ComponentLink1URL: http://www.freescale.com/; ComponentLink2Description: Datasheet; ComponentLink2URL: http://www.freescale.com/files/microcontrollers/doc/data_sheet/M68HC11E.pdf
footprint 859 (DIP; 56 Leads; Row Spacing 15.24 mm; Pitch 1.778 mm)
3D model 859-01 (DIP; 56 Leads; Row Spacing 15.24 mm; Pitch 1.778 mm)
pins: 1 VSS (power), 2 MODB/VSTBY (in), 3 MODA/~{LIR} (io), 4 STRA/AS (io), 5 E, 6 STRB/R/~{W} (out), 7 EXTAL, 8 XTAL, 9 PC0/ADDR0/DATA0 (io), 10 PC1/ADDR1/DATA1 (io), 11 PC2/ADDR2/DATA2 (io), 12 PC3/ADDR3/DATA3 (io), 13 PC4/ADDR4/DATA4 (io), 14 PC5/ADDR5/DATA5 (io), 15 PC6/ADDR6/DATA6 (io), 16 PC7/ADDR7/DATA7 (io), 17 ~{RESET} (io), 18 ~{XIRQ}/VPPE (in), 19 ~{IRQ} (in), 20 PD0/RXD (io), 21 EVSS (power), 22 PD1/TXD (io), 23 PD2/MISO (io), 24 PD3/MOSI (io), 25 PD4/SCK (io), 26 PD5/~{SS} (io), 27 VDD (power), 28 VSS (power), 29 EVDD (power), 30 PA7/PAI/OC1 (io), 31 PA6/OC2/OC1 (out), 32 PA5/OC3/OC1 (out), 33 PA4/OC4/OC1 (out), 34 PA3/OC5/IC4/OC1 (io), 35 PA2/IC1 (in), 36 PA1/IC2 (in), 37 PA0/IC3 (in), 38 PB7/ADDR15 (out), 39 PB6/ADDR14 (out), 40 PB5/ADDR13 (out), 41 PB4/ADDR12 (out), 42 PB3/ADDR11 (out), 43 PB2/ADDR10 (out), 44 PB1/ADDR9 (out), 45 PB0/ADDR8 (out), 46 PE0/AN0 (in), 47 PE4/AN4 (in), 48 PE1/AN1 (in), 49 PE5/AN5 (in), 50 PE2/AN2 (in), 51 PE6/AN6 (in), 52 PE3/AN3 (in), 53 PE7/AN7 (in), 54 VRL (in), 55 VRH (in), 56 EVSS (power)

## MC68HC11E9CFN2
designator U?
8-Bit Microcontroller; Published: 17-Jan-2003; LatestRevisionDate: 13-Apr-2006; LatestRevisionNote: IPC-7351 Footprint Added.; DatasheetVersion: 25-Jul-2002; PackageVersion: rev3, 1997; PackageReference: 778-02; Publisher: Altium Limited; PackageDescription: 52-Pin Plastic Leaded Chip Carrier 1.27 mm Pitch; ComponentLink1Description: Manufacturer Link; ComponentLink1URL: http://www.freescale.com/; ComponentLink2Description: Datasheet; ComponentLink2URL: http://www.freescale.com/files/microcontrollers/doc/data_sheet/M68HC11E.pdf
footprint 778-02_N (Leaded Chip Carrier, 52-Leads, Body 19x19mm, Pitch 1.27mm, IPC Medium Density)
footprint 778-02_L (Leaded Chip Carrier, 52-Leads, Body 19x19mm, Pitch 1.27mm, IPC High Density)
footprint 778-02_M (Leaded Chip Carrier, 52-Leads, Body 19x19mm, Pitch 1.27mm, IPC Low Density)
3D model MC68HC11-778-02 (52-Pin Plastic Leaded Chip Carrier 1.27 mm Pitch)
pins: 1 VSS (power), 2 MODB/VSTBY (in), 3 MODA/~{LIR} (io), 4 STRA/AS (io), 5 E, 6 STRB/R/~{W} (out), 7 EXTAL, 8 XTAL, 9 PC0/ADDR0/DATA0 (io), 10 PC1/ADDR1/DATA1 (io), 11 PC2/ADDR2/DATA2 (io), 12 PC3/ADDR3/DATA3 (io), 13 PC4/ADDR4/DATA4 (io), 14 PC5/ADDR5/DATA5 (io), 15 PC6/ADDR6/DATA6 (io), 16 PC7/ADDR7/DATA7 (io), 17 ~{RESET} (io), 18 ~{XIRQ}/VPPE (in), 19 ~{IRQ} (in), 20 PD0/RXD (io), 21 PD1/TXD (io), 22 PD2/MISO (io), 23 PD3/MOSI (io), 24 PD4/SCK (io), 25 PD5/~{SS} (io), 26 VDD (power), 27 PA7/PAI/OC1 (io), 28 PA6/OC2/OC1 (out), 29 PA5/OC3/OC1 (out), 30 PA4/OC4/OC1 (out), 31 PA3/OC5/IC4/OC1 (io), 32 PA2/IC1 (in), 33 PA1/IC2 (in), 34 PA0/IC3 (in), 35 PB7/ADDR15 (out), 36 PB6/ADDR14 (out), 37 PB5/ADDR13 (out), 38 PB4/ADDR12 (out), 39 PB3/ADDR11 (out), 40 PB2/ADDR10 (out), 41 PB1/ADDR9 (out), 42 PB0/ADDR8 (out), 43 PE0/AN0 (in), 44 PE4/AN4 (in), 45 PE1/AN1 (in), 46 PE5/AN5 (in), 47 PE2/AN2 (in), 48 PE6/AN6 (in), 49 PE3/AN3 (in), 50 PE7/AN7 (in), 51 VRL (in), 52 VRH (in)

## MC68HC11E9CFN3
designator U?
8-Bit Microcontroller; Published: 17-Jan-2003; LatestRevisionDate: 13-Apr-2006; LatestRevisionNote: IPC-7351 Footprint Added.; DatasheetVersion: 25-Jul-2002; PackageVersion: rev3, 1997; PackageReference: 778-02; Publisher: Altium Limited; PackageDescription: 52-Pin Plastic Leaded Chip Carrier 1.27 mm Pitch; ComponentLink1Description: Manufacturer Link; ComponentLink1URL: http://www.freescale.com/; ComponentLink2Description: Datasheet; ComponentLink2URL: http://www.freescale.com/files/microcontrollers/doc/data_sheet/M68HC11E.pdf
footprint 778-02_N (Leaded Chip Carrier, 52-Leads, Body 19x19mm, Pitch 1.27mm, IPC Medium Density)
footprint 778-02_L (Leaded Chip Carrier, 52-Leads, Body 19x19mm, Pitch 1.27mm, IPC High Density)
footprint 778-02_M (Leaded Chip Carrier, 52-Leads, Body 19x19mm, Pitch 1.27mm, IPC Low Density)
3D model MC68HC11-778-02 (52-Pin Plastic Leaded Chip Carrier 1.27 mm Pitch)
pins: 1 VSS (power), 2 MODB/VSTBY (in), 3 MODA/~{LIR} (io), 4 STRA/AS (io), 5 E, 6 STRB/R/~{W} (out), 7 EXTAL, 8 XTAL, 9 PC0/ADDR0/DATA0 (io), 10 PC1/ADDR1/DATA1 (io), 11 PC2/ADDR2/DATA2 (io), 12 PC3/ADDR3/DATA3 (io), 13 PC4/ADDR4/DATA4 (io), 14 PC5/ADDR5/DATA5 (io), 15 PC6/ADDR6/DATA6 (io), 16 PC7/ADDR7/DATA7 (io), 17 ~{RESET} (io), 18 ~{XIRQ}/VPPE (in), 19 ~{IRQ} (in), 20 PD0/RXD (io), 21 PD1/TXD (io), 22 PD2/MISO (io), 23 PD3/MOSI (io), 24 PD4/SCK (io), 25 PD5/~{SS} (io), 26 VDD (power), 27 PA7/PAI/OC1 (io), 28 PA6/OC2/OC1 (out), 29 PA5/OC3/OC1 (out), 30 PA4/OC4/OC1 (out), 31 PA3/OC5/IC4/OC1 (io), 32 PA2/IC1 (in), 33 PA1/IC2 (in), 34 PA0/IC3 (in), 35 PB7/ADDR15 (out), 36 PB6/ADDR14 (out), 37 PB5/ADDR13 (out), 38 PB4/ADDR12 (out), 39 PB3/ADDR11 (out), 40 PB2/ADDR10 (out), 41 PB1/ADDR9 (out), 42 PB0/ADDR8 (out), 43 PE0/AN0 (in), 44 PE4/AN4 (in), 45 PE1/AN1 (in), 46 PE5/AN5 (in), 47 PE2/AN2 (in), 48 PE6/AN6 (in), 49 PE3/AN3 (in), 50 PE7/AN7 (in), 51 VRL (in), 52 VRH (in)

## MC68HC11E9CFU2
designator U?
8-Bit Microcontroller; Published: 17-Jan-2003; LatestRevisionDate: 13-Apr-2006; LatestRevisionNote: IPC-7351 Footprint Added.; DatasheetVersion: 25-Jul-2002; PackageVersion: rev4, Jul-2002; PackageReference: 840C; Publisher: Altium Limited; PackageDescription: 64-Pin Quad Flat Pack 0.8 mm Pitch; ComponentLink1Description: Manufacturer Link; ComponentLink1URL: http://www.freescale.com/; ComponentLink2Description: Datasheet; ComponentLink2URL: http://www.freescale.com/files/microcontrollers/doc/data_sheet/M68HC11E.pdf
footprint 840C_N (QFP, 64-Leads, Body 14x14mm, Pitch 0.8mm, IPC Medium Density)
footprint 840C_L (QFP, 64-Leads, Body 14x14mm, Pitch 0.8mm, IPC High Density)
footprint 840C_M (QFP, 64-Leads, Body 14x14mm, Pitch 0.8mm, IPC Low Density)
3D model MC68HC11-840C (64-Pin Quad Flat Pack 0.8 mm Pitch)
pins: 1 PA0/IC3 (in), 2 NC, 3 NC, 4 NC, 5 PB7/ADDR15 (out), 6 PB6/ADDR14 (out), 7 PB5/ADDR13 (out), 8 PB4/ADDR12 (out), 9 PB3/ADDR11 (out), 10 PB2/ADDR10 (out), 11 PB1/ADDR9 (out), 12 PB0/ADDR8 (out), 13 PE0/AN0 (in), 14 PE4/AN4 (in), 15 PE1/AN1 (in), 16 PE5/AN5 (in), 17 PE2/AN2 (in), 18 PE6/AN6 (in), 19 PE3/AN3 (in), 20 PE7/AN7 (in), 21 VRL (in), 22 VRH (in), 23 VSS (power), 24 VSS (power), 25 MODB/VSTBY (in), 26 NC, 27 MODA/~{LIR} (io), 28 STRA/AS (io), 29 E, 30 STRB/R/~{W} (out), 31 EXTAL, 32 NC, 33 XTAL (out), 34 PC0/ADDR0/DATA0 (io), 35 NC, 36 PC1/ADDR1/DATA1 (io), 37 PC2/ADDR2/DATA2 (io), 38 PC3/ADDR3/DATA3 (io), 39 PC4/ADDR4/DATA4 (io), 40 PC5/ADDR5/DATA5 (io), 41 PC6/ADDR6/DATA6 (io), 42 PC7/ADDR7/DATA7 (io), 43 ~{RESET} (io), 44 NC, 45 ~{XIRQ}/VPPE (in), 46 ~{IRQ} (in), 47 PD0/RXD (io), 48 NC, 49 VSS (power), 50 PD1/TXD (io), 51 PD2/MISO (io), 52 PD3/MOSI (io), 53 PD4/SCK (io), 54 PD5/~{SS} (io), 55 VDD (power), 56 PA7/PAI/OC1 (io), 57 PA6/OC2/OC1 (out), 58 PA5/OC3/OC1 (out), 59 PA4/OC4/OC1 (out), 60 NC, 61 NC, 62 PA3/OC5/IC4/OC1 (io), 63 PA2/IC1 (in), 64 PA1/IC2 (in)

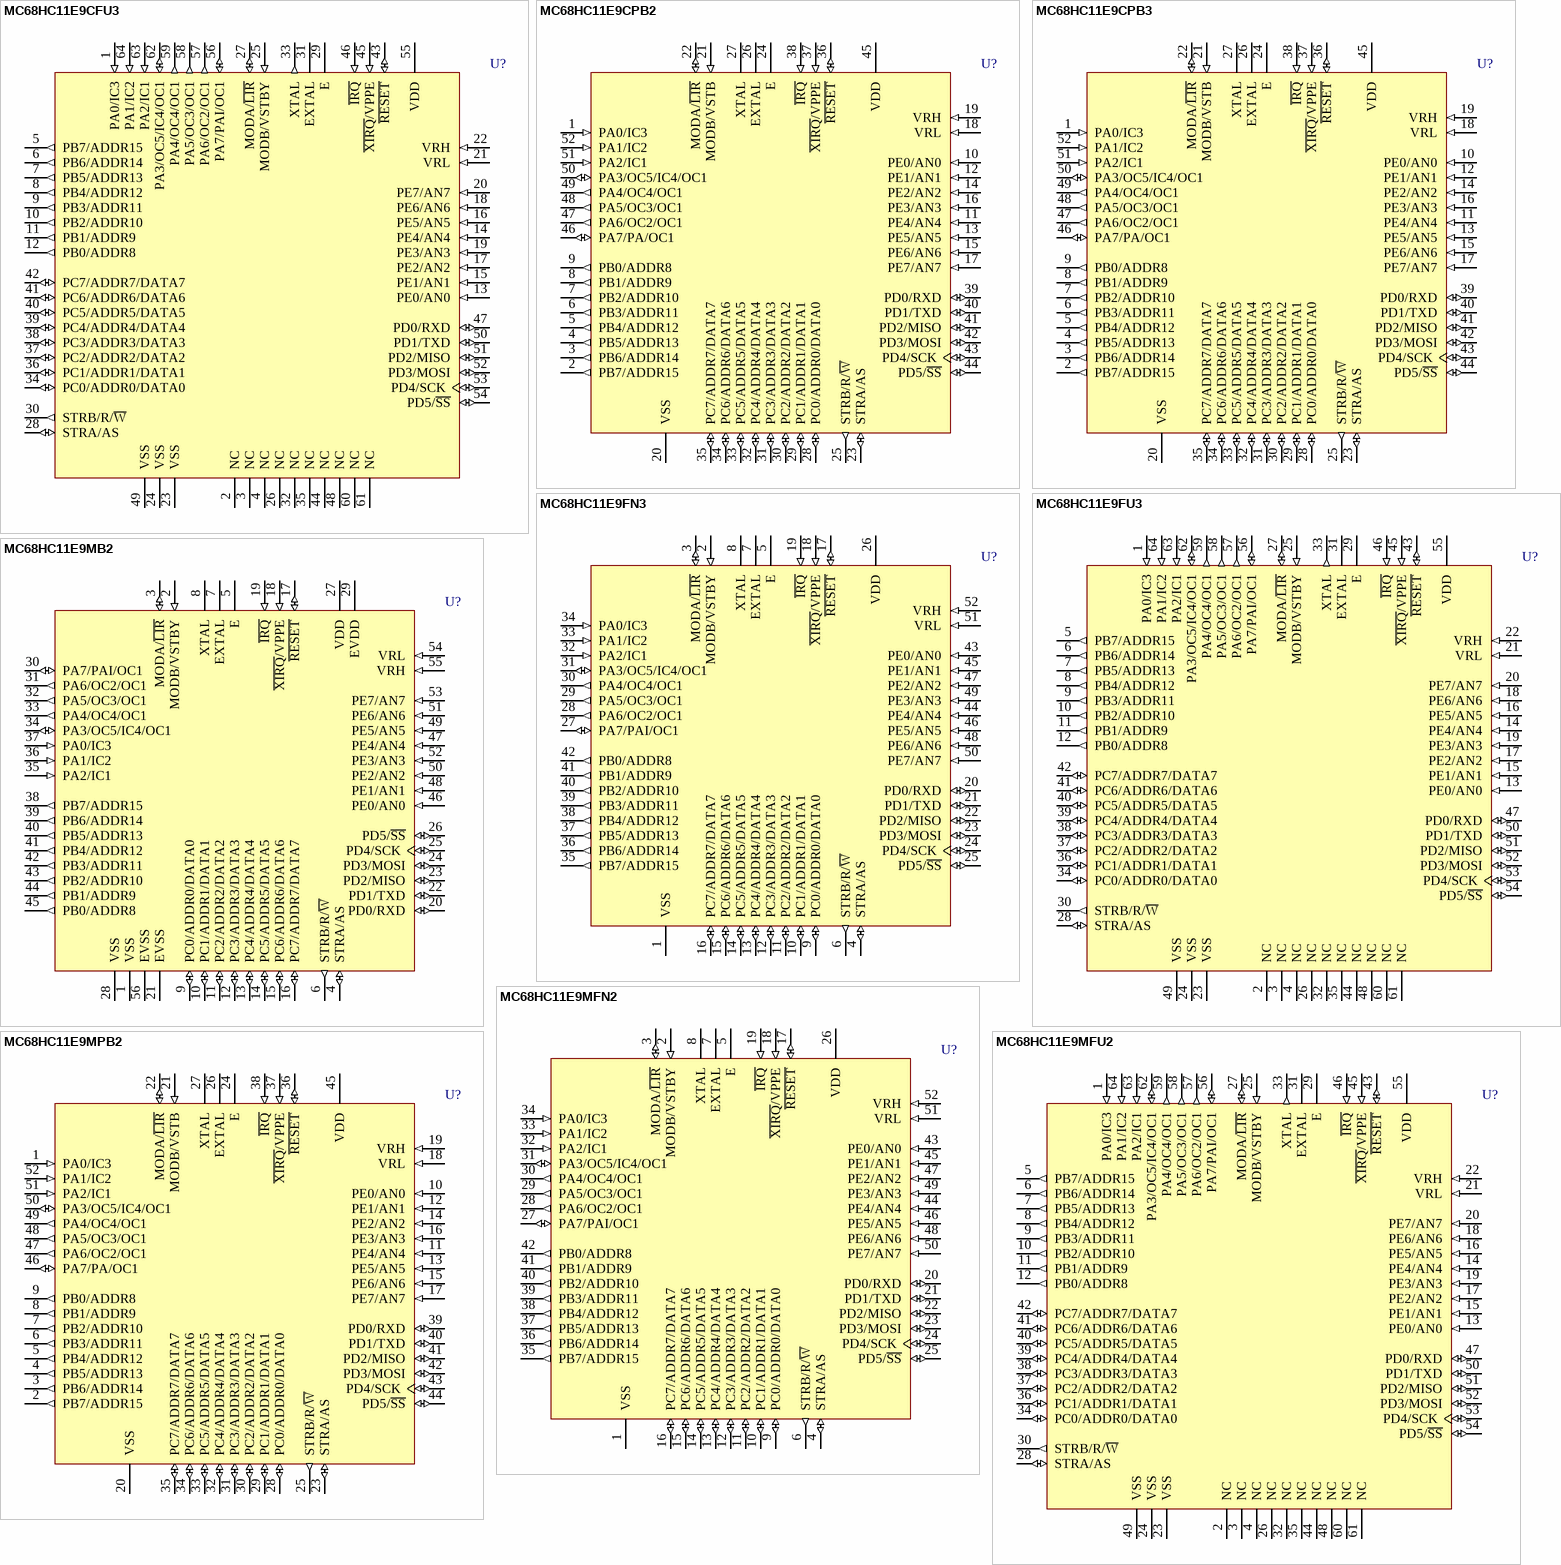
[diagram p25: symbols MC68HC11E9CFU3 to MC68HC11E9MPB2]

## MC68HC11E9CFU3
designator U?
8-Bit Microcontroller; Published: 17-Jan-2003; LatestRevisionDate: 13-Apr-2006; LatestRevisionNote: IPC-7351 Footprint Added.; DatasheetVersion: 25-Jul-2002; PackageVersion: rev4, Jul-2002; PackageReference: 840C; Publisher: Altium Limited; PackageDescription: 64-Pin Quad Flat Pack 0.8 mm Pitch; ComponentLink1Description: Manufacturer Link; ComponentLink1URL: http://www.freescale.com/; ComponentLink2Description: Datasheet; ComponentLink2URL: http://www.freescale.com/files/microcontrollers/doc/data_sheet/M68HC11E.pdf
footprint 840C_N (QFP, 64-Leads, Body 14x14mm, Pitch 0.8mm, IPC Medium Density)
footprint 840C_L (QFP, 64-Leads, Body 14x14mm, Pitch 0.8mm, IPC High Density)
footprint 840C_M (QFP, 64-Leads, Body 14x14mm, Pitch 0.8mm, IPC Low Density)
3D model MC68HC11-840C (64-Pin Quad Flat Pack 0.8 mm Pitch)
pins: 1 PA0/IC3 (in), 2 NC, 3 NC, 4 NC, 5 PB7/ADDR15 (out), 6 PB6/ADDR14 (out), 7 PB5/ADDR13 (out), 8 PB4/ADDR12 (out), 9 PB3/ADDR11 (out), 10 PB2/ADDR10 (out), 11 PB1/ADDR9 (out), 12 PB0/ADDR8 (out), 13 PE0/AN0 (in), 14 PE4/AN4 (in), 15 PE1/AN1 (in), 16 PE5/AN5 (in), 17 PE2/AN2 (in), 18 PE6/AN6 (in), 19 PE3/AN3 (in), 20 PE7/AN7 (in), 21 VRL (in), 22 VRH (in), 23 VSS (power), 24 VSS (power), 25 MODB/VSTBY (in), 26 NC, 27 MODA/~{LIR} (io), 28 STRA/AS (io), 29 E, 30 STRB/R/~{W} (out), 31 EXTAL, 32 NC, 33 XTAL (out), 34 PC0/ADDR0/DATA0 (io), 35 NC, 36 PC1/ADDR1/DATA1 (io), 37 PC2/ADDR2/DATA2 (io), 38 PC3/ADDR3/DATA3 (io), 39 PC4/ADDR4/DATA4 (io), 40 PC5/ADDR5/DATA5 (io), 41 PC6/ADDR6/DATA6 (io), 42 PC7/ADDR7/DATA7 (io), 43 ~{RESET} (io), 44 NC, 45 ~{XIRQ}/VPPE (in), 46 ~{IRQ} (in), 47 PD0/RXD (io), 48 NC, 49 VSS (power), 50 PD1/TXD (io), 51 PD2/MISO (io), 52 PD3/MOSI (io), 53 PD4/SCK (io), 54 PD5/~{SS} (io), 55 VDD (power), 56 PA7/PAI/OC1 (io), 57 PA6/OC2/OC1 (out), 58 PA5/OC3/OC1 (out), 59 PA4/OC4/OC1 (out), 60 NC, 61 NC, 62 PA3/OC5/IC4/OC1 (io), 63 PA2/IC1 (in), 64 PA1/IC2 (in)

## MC68HC11E9CPB2
designator U?
8-Bit Microcontroller; Published: 17-Jan-2003; LatestRevisionDate: 13-Apr-2006; LatestRevisionNote: IPC-7351 Footprint Added.; DatasheetVersion: 25-Jul-2002; PackageVersion: rev4, Jul-2002; PackageReference: 848D; Publisher: Altium Limited; PackageDescription: 52-Pin Quad Flat Pack 0.65 mm Pitch; ComponentLink1Description: Manufacturer Link; ComponentLink1URL: http://www.freescale.com/; ComponentLink2Description: Datasheet; ComponentLink2URL: http://www.freescale.com/files/microcontrollers/doc/data_sheet/M68HC11E.pdf
footprint 848D_N (QFP, 52-Leads, Body 10 x 10mm, Pitch 0.65mm, IPC Medium Density)
footprint 848D_L (QFP, 52-Leads, Body 10 x 10mm, Pitch 0.65mm, IPC High Density)
footprint 848D_M (QFP, 52-Leads, Body 10 x 10mm, Pitch 0.65mm, IPC Low Density)
3D model MC68HC11-848D (52-Pin Quad Flat Pack 0.65 mm Pitch)
pins: 1 PA0/IC3 (in), 2 PB7/ADDR15 (out), 3 PB6/ADDR14 (out), 4 PB5/ADDR13 (out), 5 PB4/ADDR12 (out), 6 PB3/ADDR11 (out), 7 PB2/ADDR10 (out), 8 PB1/ADDR9 (out), 9 PB0/ADDR8 (out), 10 PE0/AN0 (in), 11 PE4/AN4 (in), 12 PE1/AN1 (in), 13 PE5/AN5 (in), 14 PE2/AN2 (in), 15 PE6/AN6 (in), 16 PE3/AN3 (in), 17 PE7/AN7 (in), 18 VRL (in), 19 VRH (in), 20 VSS (power), 21 MODB/VSTB (in), 22 MODA/~{LIR} (io), 23 STRA/AS (io), 24 E, 25 STRB/R/~{W} (out), 26 EXTAL, 27 XTAL, 28 PC0/ADDR0/DATA0 (io), 29 PC1/ADDR1/DATA1 (io), 30 PC2/ADDR2/DATA2 (io), 31 PC3/ADDR3/DATA3 (io), 32 PC4/ADDR4/DATA4 (io), 33 PC5/ADDR5/DATA5 (io), 34 PC6/ADDR6/DATA6 (io), 35 PC7/ADDR7/DATA7 (io), 36 ~{RESET} (io), 37 ~{XIRQ}/VPPE (in), 38 ~{IRQ} (in), 39 PD0/RXD (io), 40 PD1/TXD (io), 41 PD2/MISO (io), 42 PD3/MOSI (io), 43 PD4/SCK (io), 44 PD5/~{SS} (io), 45 VDD (power), 46 PA7/PA/OC1 (io), 47 PA6/OC2/OC1 (out), 48 PA5/OC3/OC1 (out), 49 PA4/OC4/OC1 (out), 50 PA3/OC5/IC4/OC1 (io), 51 PA2/IC1 (in), 52 PA1/IC2 (in)

## MC68HC11E9CPB3
designator U?
8-Bit Microcontroller; Published: 17-Jan-2003; LatestRevisionDate: 13-Apr-2006; LatestRevisionNote: IPC-7351 Footprint Added.; DatasheetVersion: 25-Jul-2002; PackageVersion: rev4, Jul-2002; PackageReference: 848D; Publisher: Altium Limited; PackageDescription: 52-Pin Quad Flat Pack 0.65 mm Pitch; ComponentLink1Description: Manufacturer Link; ComponentLink1URL: http://www.freescale.com/; ComponentLink2Description: Datasheet; ComponentLink2URL: http://www.freescale.com/files/microcontrollers/doc/data_sheet/M68HC11E.pdf
footprint 848D_N (QFP, 52-Leads, Body 10 x 10mm, Pitch 0.65mm, IPC Medium Density)
footprint 848D_L (QFP, 52-Leads, Body 10 x 10mm, Pitch 0.65mm, IPC High Density)
footprint 848D_M (QFP, 52-Leads, Body 10 x 10mm, Pitch 0.65mm, IPC Low Density)
3D model MC68HC11-848D (52-Pin Quad Flat Pack 0.65 mm Pitch)
pins: 1 PA0/IC3 (in), 2 PB7/ADDR15 (out), 3 PB6/ADDR14 (out), 4 PB5/ADDR13 (out), 5 PB4/ADDR12 (out), 6 PB3/ADDR11 (out), 7 PB2/ADDR10 (out), 8 PB1/ADDR9 (out), 9 PB0/ADDR8 (out), 10 PE0/AN0 (in), 11 PE4/AN4 (in), 12 PE1/AN1 (in), 13 PE5/AN5 (in), 14 PE2/AN2 (in), 15 PE6/AN6 (in), 16 PE3/AN3 (in), 17 PE7/AN7 (in), 18 VRL (in), 19 VRH (in), 20 VSS (power), 21 MODB/VSTB (in), 22 MODA/~{LIR} (io), 23 STRA/AS (io), 24 E, 25 STRB/R/~{W} (out), 26 EXTAL, 27 XTAL, 28 PC0/ADDR0/DATA0 (io), 29 PC1/ADDR1/DATA1 (io), 30 PC2/ADDR2/DATA2 (io), 31 PC3/ADDR3/DATA3 (io), 32 PC4/ADDR4/DATA4 (io), 33 PC5/ADDR5/DATA5 (io), 34 PC6/ADDR6/DATA6 (io), 35 PC7/ADDR7/DATA7 (io), 36 ~{RESET} (io), 37 ~{XIRQ}/VPPE (in), 38 ~{IRQ} (in), 39 PD0/RXD (io), 40 PD1/TXD (io), 41 PD2/MISO (io), 42 PD3/MOSI (io), 43 PD4/SCK (io), 44 PD5/~{SS} (io), 45 VDD (power), 46 PA7/PA/OC1 (io), 47 PA6/OC2/OC1 (out), 48 PA5/OC3/OC1 (out), 49 PA4/OC4/OC1 (out), 50 PA3/OC5/IC4/OC1 (io), 51 PA2/IC1 (in), 52 PA1/IC2 (in)

## MC68HC11E9FN3
designator U?
8-Bit Microcontroller; Published: 17-Jan-2003; LatestRevisionDate: 13-Apr-2006; LatestRevisionNote: IPC-7351 Footprint Added.; DatasheetVersion: 25-Jul-2002; PackageVersion: rev3, 1997; PackageReference: 778-02; Publisher: Altium Limited; PackageDescription: 52-Pin Plastic Leaded Chip Carrier 1.27 mm Pitch; ComponentLink1Description: Manufacturer Link; ComponentLink1URL: http://www.freescale.com/; ComponentLink2Description: Datasheet; ComponentLink2URL: http://www.freescale.com/files/microcontrollers/doc/data_sheet/M68HC11E.pdf
footprint 778-02_N (Leaded Chip Carrier, 52-Leads, Body 19x19mm, Pitch 1.27mm, IPC Medium Density)
footprint 778-02_L (Leaded Chip Carrier, 52-Leads, Body 19x19mm, Pitch 1.27mm, IPC High Density)
footprint 778-02_M (Leaded Chip Carrier, 52-Leads, Body 19x19mm, Pitch 1.27mm, IPC Low Density)
3D model MC68HC11-778-02 (52-Pin Plastic Leaded Chip Carrier 1.27 mm Pitch)
pins: 1 VSS (power), 2 MODB/VSTBY (in), 3 MODA/~{LIR} (io), 4 STRA/AS (io), 5 E, 6 STRB/R/~{W} (out), 7 EXTAL, 8 XTAL, 9 PC0/ADDR0/DATA0 (io), 10 PC1/ADDR1/DATA1 (io), 11 PC2/ADDR2/DATA2 (io), 12 PC3/ADDR3/DATA3 (io), 13 PC4/ADDR4/DATA4 (io), 14 PC5/ADDR5/DATA5 (io), 15 PC6/ADDR6/DATA6 (io), 16 PC7/ADDR7/DATA7 (io), 17 ~{RESET} (io), 18 ~{XIRQ}/VPPE (in), 19 ~{IRQ} (in), 20 PD0/RXD (io), 21 PD1/TXD (io), 22 PD2/MISO (io), 23 PD3/MOSI (io), 24 PD4/SCK (io), 25 PD5/~{SS} (io), 26 VDD (power), 27 PA7/PAI/OC1 (io), 28 PA6/OC2/OC1 (out), 29 PA5/OC3/OC1 (out), 30 PA4/OC4/OC1 (out), 31 PA3/OC5/IC4/OC1 (io), 32 PA2/IC1 (in), 33 PA1/IC2 (in), 34 PA0/IC3 (in), 35 PB7/ADDR15 (out), 36 PB6/ADDR14 (out), 37 PB5/ADDR13 (out), 38 PB4/ADDR12 (out), 39 PB3/ADDR11 (out), 40 PB2/ADDR10 (out), 41 PB1/ADDR9 (out), 42 PB0/ADDR8 (out), 43 PE0/AN0 (in), 44 PE4/AN4 (in), 45 PE1/AN1 (in), 46 PE5/AN5 (in), 47 PE2/AN2 (in), 48 PE6/AN6 (in), 49 PE3/AN3 (in), 50 PE7/AN7 (in), 51 VRL (in), 52 VRH (in)

## MC68HC11E9FU3
designator U?
8-Bit Microcontroller; Published: 17-Jan-2003; LatestRevisionDate: 13-Apr-2006; LatestRevisionNote: IPC-7351 Footprint Added.; DatasheetVersion: 25-Jul-2002; PackageVersion: rev4, Jul-2002; PackageReference: 840C; Publisher: Altium Limited; PackageDescription: 64-Pin Quad Flat Pack 0.8 mm Pitch; ComponentLink1Description: Manufacturer Link; ComponentLink1URL: http://www.freescale.com/; ComponentLink2Description: Datasheet; ComponentLink2URL: http://www.freescale.com/files/microcontrollers/doc/data_sheet/M68HC11E.pdf
footprint 840C_N (QFP, 64-Leads, Body 14x14mm, Pitch 0.8mm, IPC Medium Density)
footprint 840C_L (QFP, 64-Leads, Body 14x14mm, Pitch 0.8mm, IPC High Density)
footprint 840C_M (QFP, 64-Leads, Body 14x14mm, Pitch 0.8mm, IPC Low Density)
3D model MC68HC11-840C (64-Pin Quad Flat Pack 0.8 mm Pitch)
pins: 1 PA0/IC3 (in), 2 NC, 3 NC, 4 NC, 5 PB7/ADDR15 (out), 6 PB6/ADDR14 (out), 7 PB5/ADDR13 (out), 8 PB4/ADDR12 (out), 9 PB3/ADDR11 (out), 10 PB2/ADDR10 (out), 11 PB1/ADDR9 (out), 12 PB0/ADDR8 (out), 13 PE0/AN0 (in), 14 PE4/AN4 (in), 15 PE1/AN1 (in), 16 PE5/AN5 (in), 17 PE2/AN2 (in), 18 PE6/AN6 (in), 19 PE3/AN3 (in), 20 PE7/AN7 (in), 21 VRL (in), 22 VRH (in), 23 VSS (power), 24 VSS (power), 25 MODB/VSTBY (in), 26 NC, 27 MODA/~{LIR} (io), 28 STRA/AS (io), 29 E, 30 STRB/R/~{W} (out), 31 EXTAL, 32 NC, 33 XTAL (out), 34 PC0/ADDR0/DATA0 (io), 35 NC, 36 PC1/ADDR1/DATA1 (io), 37 PC2/ADDR2/DATA2 (io), 38 PC3/ADDR3/DATA3 (io), 39 PC4/ADDR4/DATA4 (io), 40 PC5/ADDR5/DATA5 (io), 41 PC6/ADDR6/DATA6 (io), 42 PC7/ADDR7/DATA7 (io), 43 ~{RESET} (io), 44 NC, 45 ~{XIRQ}/VPPE (in), 46 ~{IRQ} (in), 47 PD0/RXD (io), 48 NC, 49 VSS (power), 50 PD1/TXD (io), 51 PD2/MISO (io), 52 PD3/MOSI (io), 53 PD4/SCK (io), 54 PD5/~{SS} (io), 55 VDD (power), 56 PA7/PAI/OC1 (io), 57 PA6/OC2/OC1 (out), 58 PA5/OC3/OC1 (out), 59 PA4/OC4/OC1 (out), 60 NC, 61 NC, 62 PA3/OC5/IC4/OC1 (io), 63 PA2/IC1 (in), 64 PA1/IC2 (in)

## MC68HC11E9MB2
designator U?
8-Bit Microcontroller; Published: 17-Jan-2003; LatestRevisionDate: 06-Jun-2005; LatestRevisionNote: Stylized 3D Model Added.; DatasheetVersion: 25-Jul-2002; PackageVersion: rev4, Jul-2002; PackageReference: 859; Publisher: Altium Limited; PackageDescription: DIP; 56 Leads; Row Spacing 15.24 mm; Pitch 1.778 mm; ComponentLink1Description: Manufacturer Link; ComponentLink1URL: http://www.freescale.com/; ComponentLink2Description: Datasheet; ComponentLink2URL: http://www.freescale.com/files/microcontrollers/doc/data_sheet/M68HC11E.pdf
footprint 859 (DIP; 56 Leads; Row Spacing 15.24 mm; Pitch 1.778 mm)
3D model 859-01 (DIP; 56 Leads; Row Spacing 15.24 mm; Pitch 1.778 mm)
pins: 1 VSS (power), 2 MODB/VSTBY (in), 3 MODA/~{LIR} (io), 4 STRA/AS (io), 5 E, 6 STRB/R/~{W} (out), 7 EXTAL, 8 XTAL, 9 PC0/ADDR0/DATA0 (io), 10 PC1/ADDR1/DATA1 (io), 11 PC2/ADDR2/DATA2 (io), 12 PC3/ADDR3/DATA3 (io), 13 PC4/ADDR4/DATA4 (io), 14 PC5/ADDR5/DATA5 (io), 15 PC6/ADDR6/DATA6 (io), 16 PC7/ADDR7/DATA7 (io), 17 ~{RESET} (io), 18 ~{XIRQ}/VPPE (in), 19 ~{IRQ} (in), 20 PD0/RXD (io), 21 EVSS (power), 22 PD1/TXD (io), 23 PD2/MISO (io), 24 PD3/MOSI (io), 25 PD4/SCK (io), 26 PD5/~{SS} (io), 27 VDD (power), 28 VSS (power), 29 EVDD (power), 30 PA7/PAI/OC1 (io), 31 PA6/OC2/OC1 (out), 32 PA5/OC3/OC1 (out), 33 PA4/OC4/OC1 (out), 34 PA3/OC5/IC4/OC1 (io), 35 PA2/IC1 (in), 36 PA1/IC2 (in), 37 PA0/IC3 (in), 38 PB7/ADDR15 (out), 39 PB6/ADDR14 (out), 40 PB5/ADDR13 (out), 41 PB4/ADDR12 (out), 42 PB3/ADDR11 (out), 43 PB2/ADDR10 (out), 44 PB1/ADDR9 (out), 45 PB0/ADDR8 (out), 46 PE0/AN0 (in), 47 PE4/AN4 (in), 48 PE1/AN1 (in), 49 PE5/AN5 (in), 50 PE2/AN2 (in), 51 PE6/AN6 (in), 52 PE3/AN3 (in), 53 PE7/AN7 (in), 54 VRL (in), 55 VRH (in), 56 EVSS (power)

## MC68HC11E9MFN2
designator U?
8-Bit Microcontroller; Published: 17-Jan-2003; LatestRevisionDate: 13-Apr-2006; LatestRevisionNote: IPC-7351 Footprint Added.; DatasheetVersion: 25-Jul-2002; PackageVersion: rev3, 1997; PackageReference: 778-02; Publisher: Altium Limited; PackageDescription: 52-Pin Plastic Leaded Chip Carrier 1.27 mm Pitch; ComponentLink1Description: Manufacturer Link; ComponentLink1URL: http://www.freescale.com/; ComponentLink2Description: Datasheet; ComponentLink2URL: http://www.freescale.com/files/microcontrollers/doc/data_sheet/M68HC11E.pdf
footprint 778-02_N (Leaded Chip Carrier, 52-Leads, Body 19x19mm, Pitch 1.27mm, IPC Medium Density)
footprint 778-02_L (Leaded Chip Carrier, 52-Leads, Body 19x19mm, Pitch 1.27mm, IPC High Density)
footprint 778-02_M (Leaded Chip Carrier, 52-Leads, Body 19x19mm, Pitch 1.27mm, IPC Low Density)
3D model MC68HC11-778-02 (52-Pin Plastic Leaded Chip Carrier 1.27 mm Pitch)
pins: 1 VSS (power), 2 MODB/VSTBY (in), 3 MODA/~{LIR} (io), 4 STRA/AS (io), 5 E, 6 STRB/R/~{W} (out), 7 EXTAL, 8 XTAL, 9 PC0/ADDR0/DATA0 (io), 10 PC1/ADDR1/DATA1 (io), 11 PC2/ADDR2/DATA2 (io), 12 PC3/ADDR3/DATA3 (io), 13 PC4/ADDR4/DATA4 (io), 14 PC5/ADDR5/DATA5 (io), 15 PC6/ADDR6/DATA6 (io), 16 PC7/ADDR7/DATA7 (io), 17 ~{RESET} (io), 18 ~{XIRQ}/VPPE (in), 19 ~{IRQ} (in), 20 PD0/RXD (io), 21 PD1/TXD (io), 22 PD2/MISO (io), 23 PD3/MOSI (io), 24 PD4/SCK (io), 25 PD5/~{SS} (io), 26 VDD (power), 27 PA7/PAI/OC1 (io), 28 PA6/OC2/OC1 (out), 29 PA5/OC3/OC1 (out), 30 PA4/OC4/OC1 (out), 31 PA3/OC5/IC4/OC1 (io), 32 PA2/IC1 (in), 33 PA1/IC2 (in), 34 PA0/IC3 (in), 35 PB7/ADDR15 (out), 36 PB6/ADDR14 (out), 37 PB5/ADDR13 (out), 38 PB4/ADDR12 (out), 39 PB3/ADDR11 (out), 40 PB2/ADDR10 (out), 41 PB1/ADDR9 (out), 42 PB0/ADDR8 (out), 43 PE0/AN0 (in), 44 PE4/AN4 (in), 45 PE1/AN1 (in), 46 PE5/AN5 (in), 47 PE2/AN2 (in), 48 PE6/AN6 (in), 49 PE3/AN3 (in), 50 PE7/AN7 (in), 51 VRL (in), 52 VRH (in)

## MC68HC11E9MFU2
designator U?
8-Bit Microcontroller; Published: 17-Jan-2003; LatestRevisionDate: 13-Apr-2006; LatestRevisionNote: IPC-7351 Footprint Added.; DatasheetVersion: 25-Jul-2002; PackageVersion: rev4, Jul-2002; PackageReference: 840C; Publisher: Altium Limited; PackageDescription: 64-Pin Quad Flat Pack 0.8 mm Pitch; ComponentLink1Description: Manufacturer Link; ComponentLink1URL: http://www.freescale.com/; ComponentLink2Description: Datasheet; ComponentLink2URL: http://www.freescale.com/files/microcontrollers/doc/data_sheet/M68HC11E.pdf
footprint 840C_N (QFP, 64-Leads, Body 14x14mm, Pitch 0.8mm, IPC Medium Density)
footprint 840C_L (QFP, 64-Leads, Body 14x14mm, Pitch 0.8mm, IPC High Density)
footprint 840C_M (QFP, 64-Leads, Body 14x14mm, Pitch 0.8mm, IPC Low Density)
3D model MC68HC11-840C (64-Pin Quad Flat Pack 0.8 mm Pitch)
pins: 1 PA0/IC3 (in), 2 NC, 3 NC, 4 NC, 5 PB7/ADDR15 (out), 6 PB6/ADDR14 (out), 7 PB5/ADDR13 (out), 8 PB4/ADDR12 (out), 9 PB3/ADDR11 (out), 10 PB2/ADDR10 (out), 11 PB1/ADDR9 (out), 12 PB0/ADDR8 (out), 13 PE0/AN0 (in), 14 PE4/AN4 (in), 15 PE1/AN1 (in), 16 PE5/AN5 (in), 17 PE2/AN2 (in), 18 PE6/AN6 (in), 19 PE3/AN3 (in), 20 PE7/AN7 (in), 21 VRL (in), 22 VRH (in), 23 VSS (power), 24 VSS (power), 25 MODB/VSTBY (in), 26 NC, 27 MODA/~{LIR} (io), 28 STRA/AS (io), 29 E, 30 STRB/R/~{W} (out), 31 EXTAL, 32 NC, 33 XTAL (out), 34 PC0/ADDR0/DATA0 (io), 35 NC, 36 PC1/ADDR1/DATA1 (io), 37 PC2/ADDR2/DATA2 (io), 38 PC3/ADDR3/DATA3 (io), 39 PC4/ADDR4/DATA4 (io), 40 PC5/ADDR5/DATA5 (io), 41 PC6/ADDR6/DATA6 (io), 42 PC7/ADDR7/DATA7 (io), 43 ~{RESET} (io), 44 NC, 45 ~{XIRQ}/VPPE (in), 46 ~{IRQ} (in), 47 PD0/RXD (io), 48 NC, 49 VSS (power), 50 PD1/TXD (io), 51 PD2/MISO (io), 52 PD3/MOSI (io), 53 PD4/SCK (io), 54 PD5/~{SS} (io), 55 VDD (power), 56 PA7/PAI/OC1 (io), 57 PA6/OC2/OC1 (out), 58 PA5/OC3/OC1 (out), 59 PA4/OC4/OC1 (out), 60 NC, 61 NC, 62 PA3/OC5/IC4/OC1 (io), 63 PA2/IC1 (in), 64 PA1/IC2 (in)

## MC68HC11E9MPB2
designator U?
8-Bit Microcontroller; Published: 17-Jan-2003; LatestRevisionDate: 13-Apr-2006; LatestRevisionNote: IPC-7351 Footprint Added.; DatasheetVersion: 25-Jul-2002; PackageVersion: rev4, Jul-2002; PackageReference: 848D; Publisher: Altium Limited; PackageDescription: 52-Pin Quad Flat Pack 0.65 mm Pitch; ComponentLink1Description: Manufacturer Link; ComponentLink1URL: http://www.freescale.com/; ComponentLink2Description: Datasheet; ComponentLink2URL: http://www.freescale.com/files/microcontrollers/doc/data_sheet/M68HC11E.pdf
footprint 848D_N (QFP, 52-Leads, Body 10 x 10mm, Pitch 0.65mm, IPC Medium Density)
footprint 848D_L (QFP, 52-Leads, Body 10 x 10mm, Pitch 0.65mm, IPC High Density)
footprint 848D_M (QFP, 52-Leads, Body 10 x 10mm, Pitch 0.65mm, IPC Low Density)
3D model MC68HC11-848D (52-Pin Quad Flat Pack 0.65 mm Pitch)
pins: 1 PA0/IC3 (in), 2 PB7/ADDR15 (out), 3 PB6/ADDR14 (out), 4 PB5/ADDR13 (out), 5 PB4/ADDR12 (out), 6 PB3/ADDR11 (out), 7 PB2/ADDR10 (out), 8 PB1/ADDR9 (out), 9 PB0/ADDR8 (out), 10 PE0/AN0 (in), 11 PE4/AN4 (in), 12 PE1/AN1 (in), 13 PE5/AN5 (in), 14 PE2/AN2 (in), 15 PE6/AN6 (in), 16 PE3/AN3 (in), 17 PE7/AN7 (in), 18 VRL (in), 19 VRH (in), 20 VSS (power), 21 MODB/VSTB (in), 22 MODA/~{LIR} (io), 23 STRA/AS (io), 24 E, 25 STRB/R/~{W} (out), 26 EXTAL, 27 XTAL, 28 PC0/ADDR0/DATA0 (io), 29 PC1/ADDR1/DATA1 (io), 30 PC2/ADDR2/DATA2 (io), 31 PC3/ADDR3/DATA3 (io), 32 PC4/ADDR4/DATA4 (io), 33 PC5/ADDR5/DATA5 (io), 34 PC6/ADDR6/DATA6 (io), 35 PC7/ADDR7/DATA7 (io), 36 ~{RESET} (io), 37 ~{XIRQ}/VPPE (in), 38 ~{IRQ} (in), 39 PD0/RXD (io), 40 PD1/TXD (io), 41 PD2/MISO (io), 42 PD3/MOSI (io), 43 PD4/SCK (io), 44 PD5/~{SS} (io), 45 VDD (power), 46 PA7/PA/OC1 (io), 47 PA6/OC2/OC1 (out), 48 PA5/OC3/OC1 (out), 49 PA4/OC4/OC1 (out), 50 PA3/OC5/IC4/OC1 (io), 51 PA2/IC1 (in), 52 PA1/IC2 (in)

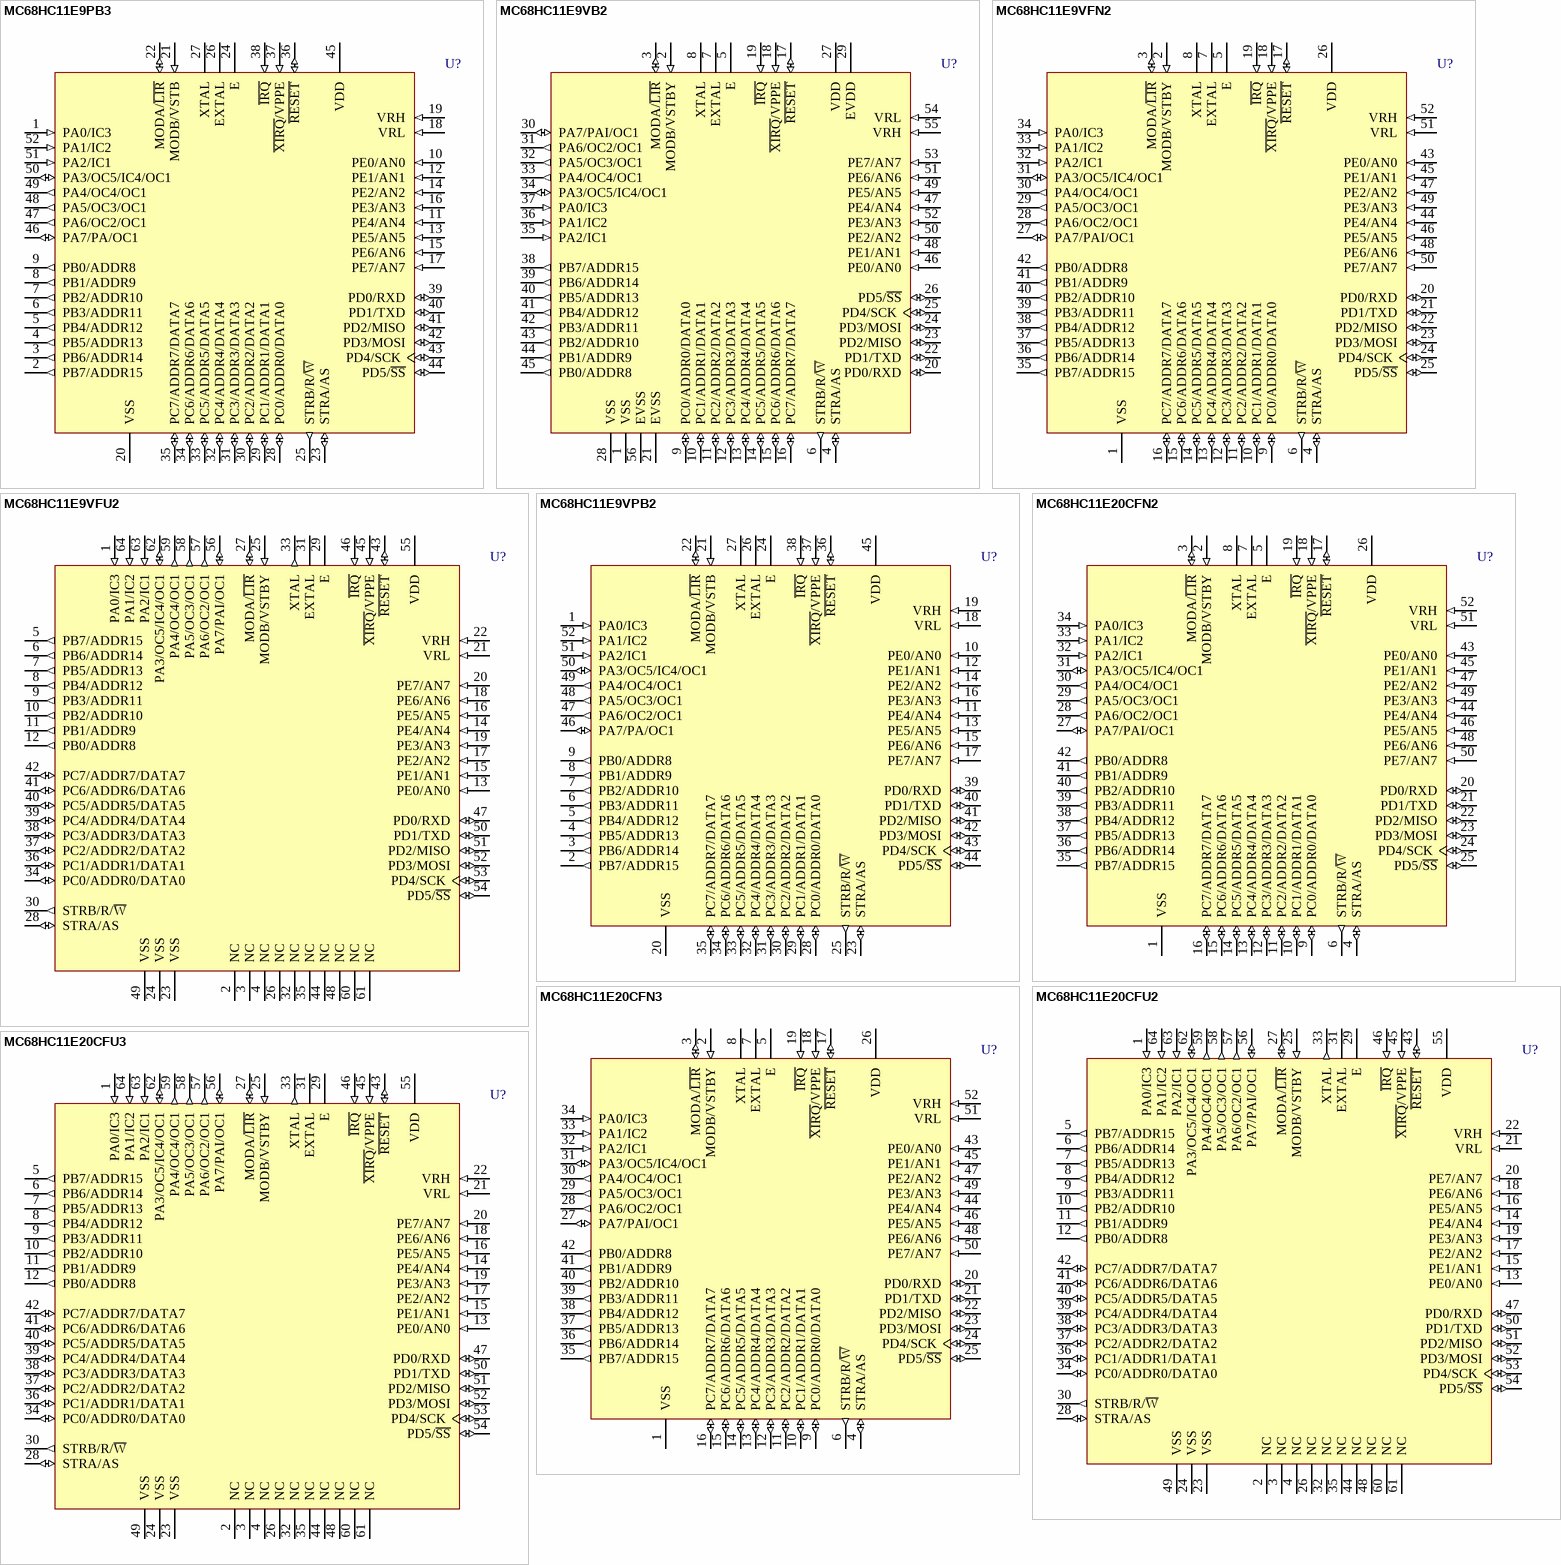
[diagram p26: symbols MC68HC11E9PB3 to MC68HC11E20CFU3]

## MC68HC11E9PB3
designator U?
8-Bit Microcontroller; Published: 17-Jan-2003; LatestRevisionDate: 13-Apr-2006; LatestRevisionNote: IPC-7351 Footprint Added.; DatasheetVersion: 25-Jul-2002; PackageVersion: rev4, Jul-2002; PackageReference: 848D; Publisher: Altium Limited; PackageDescription: 52-Pin Quad Flat Pack 0.65 mm Pitch; ComponentLink1Description: Manufacturer Link; ComponentLink1URL: http://www.freescale.com/; ComponentLink2Description: Datasheet; ComponentLink2URL: http://www.freescale.com/files/microcontrollers/doc/data_sheet/M68HC11E.pdf
footprint 848D_N (QFP, 52-Leads, Body 10 x 10mm, Pitch 0.65mm, IPC Medium Density)
footprint 848D_L (QFP, 52-Leads, Body 10 x 10mm, Pitch 0.65mm, IPC High Density)
footprint 848D_M (QFP, 52-Leads, Body 10 x 10mm, Pitch 0.65mm, IPC Low Density)
3D model MC68HC11-848D (52-Pin Quad Flat Pack 0.65 mm Pitch)
pins: 1 PA0/IC3 (in), 2 PB7/ADDR15 (out), 3 PB6/ADDR14 (out), 4 PB5/ADDR13 (out), 5 PB4/ADDR12 (out), 6 PB3/ADDR11 (out), 7 PB2/ADDR10 (out), 8 PB1/ADDR9 (out), 9 PB0/ADDR8 (out), 10 PE0/AN0 (in), 11 PE4/AN4 (in), 12 PE1/AN1 (in), 13 PE5/AN5 (in), 14 PE2/AN2 (in), 15 PE6/AN6 (in), 16 PE3/AN3 (in), 17 PE7/AN7 (in), 18 VRL (in), 19 VRH (in), 20 VSS (power), 21 MODB/VSTB (in), 22 MODA/~{LIR} (io), 23 STRA/AS (io), 24 E, 25 STRB/R/~{W} (out), 26 EXTAL, 27 XTAL, 28 PC0/ADDR0/DATA0 (io), 29 PC1/ADDR1/DATA1 (io), 30 PC2/ADDR2/DATA2 (io), 31 PC3/ADDR3/DATA3 (io), 32 PC4/ADDR4/DATA4 (io), 33 PC5/ADDR5/DATA5 (io), 34 PC6/ADDR6/DATA6 (io), 35 PC7/ADDR7/DATA7 (io), 36 ~{RESET} (io), 37 ~{XIRQ}/VPPE (in), 38 ~{IRQ} (in), 39 PD0/RXD (io), 40 PD1/TXD (io), 41 PD2/MISO (io), 42 PD3/MOSI (io), 43 PD4/SCK (io), 44 PD5/~{SS} (io), 45 VDD (power), 46 PA7/PA/OC1 (io), 47 PA6/OC2/OC1 (out), 48 PA5/OC3/OC1 (out), 49 PA4/OC4/OC1 (out), 50 PA3/OC5/IC4/OC1 (io), 51 PA2/IC1 (in), 52 PA1/IC2 (in)